# Altium schematic symbol library Sch_Device_veryaz.SchLib: 648 symbols (part 3 of 4)
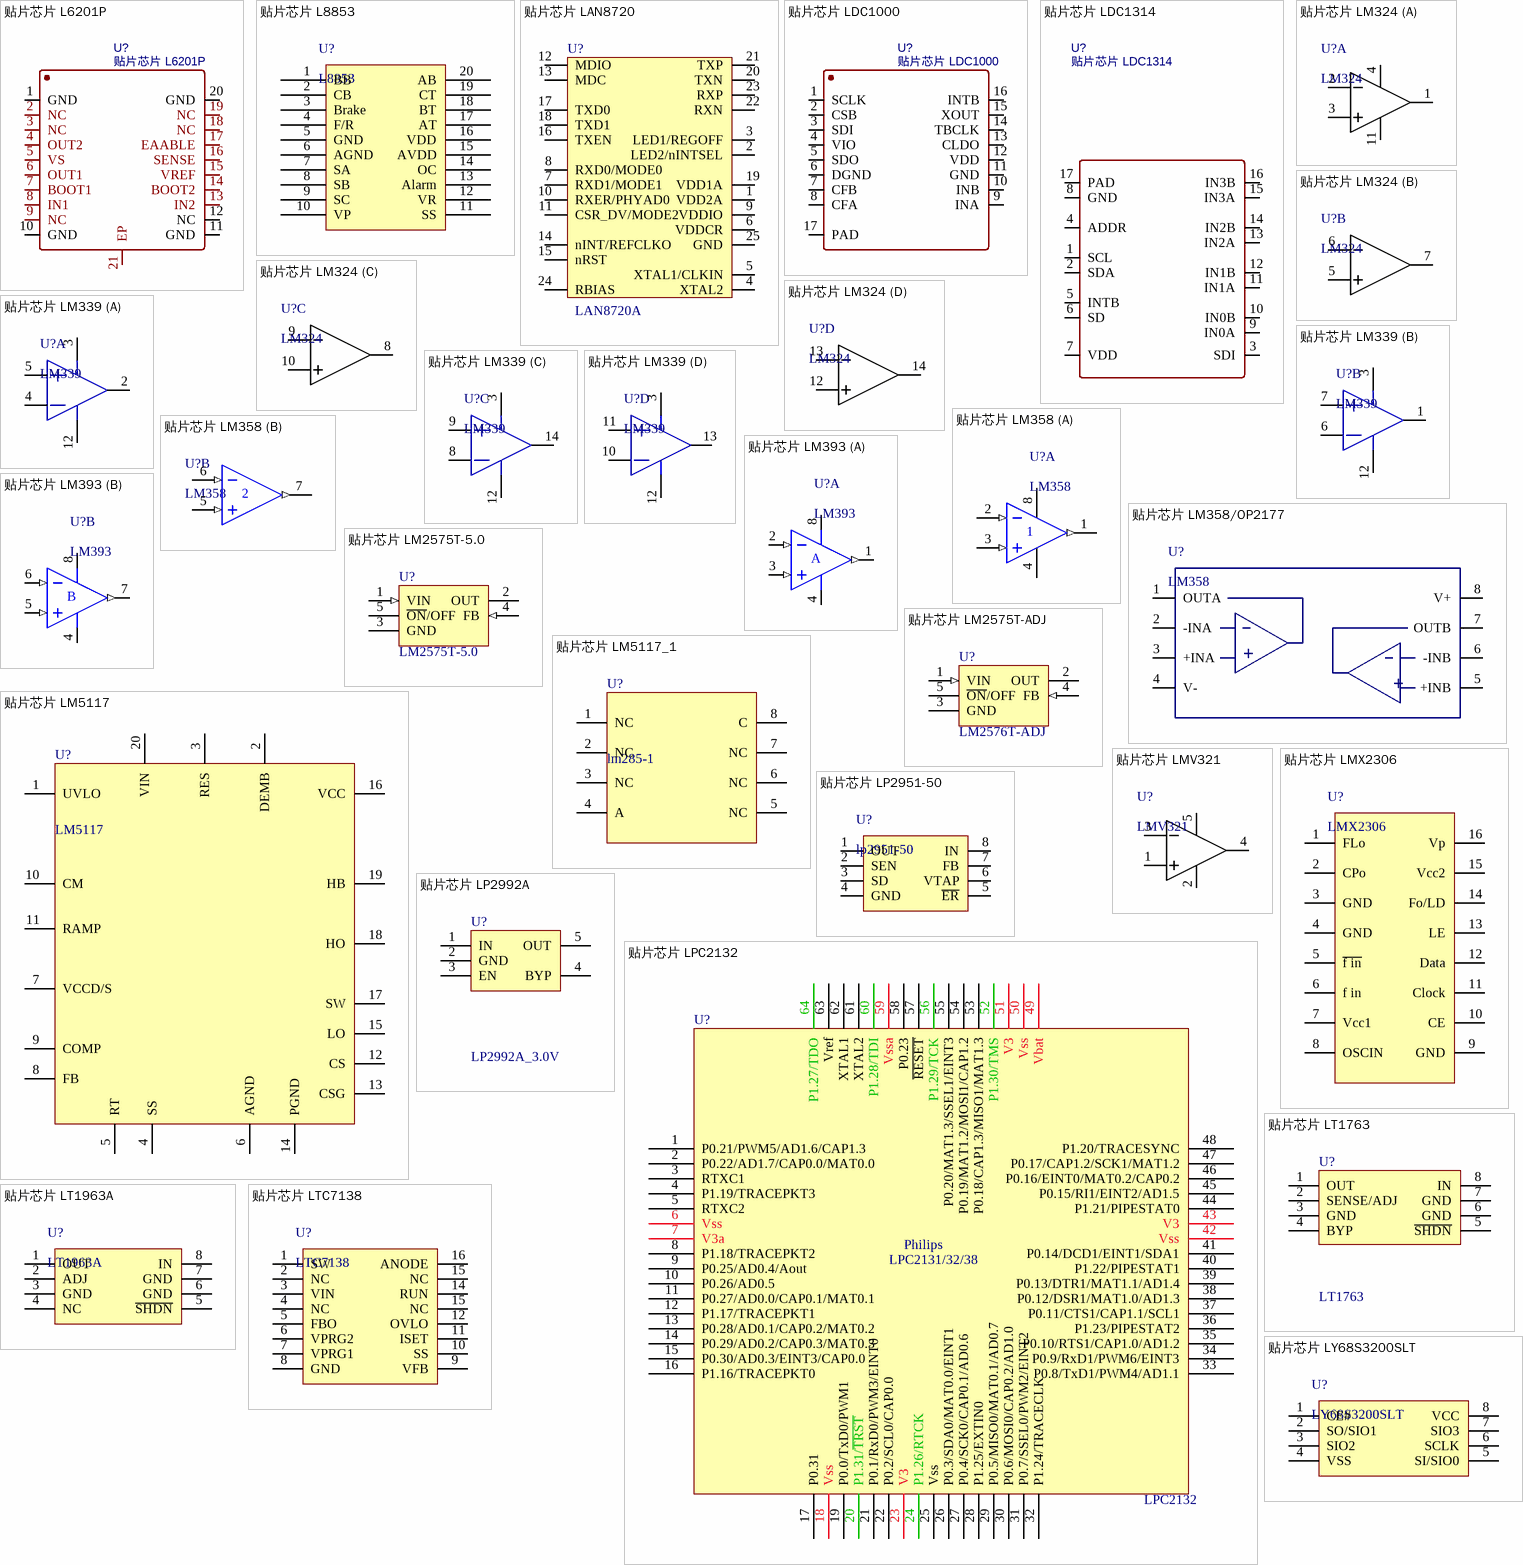
[diagram p33: symbols 贴片芯片 L6201P to 贴片芯片 LY68S3200SLT]

## 贴片芯片 LDC1314
designator U?
footprint S-PQFP-N16
pins: 1 SCL, 2 SDA, 3 SDI, 4 ADDR, 5 INTB, 6 SD, 7 VDD, 8 GND, 9 IN0A, 10 IN0B, 11 IN1A, 12 IN1B, 13 IN2A, 14 IN2B, 15 IN3A, 16 IN3B, 17 PAD

## 贴片芯片 LM324
designator U?, comment LM324
单位: 个; 封装: SO14; 名称: 芯片
footprint SO14 (Small Outline; 14 Leads; Body Width 3.9 mm; Pitch 1.27 mm)
part A pins: 1, 2, 3, 4 VCC, 11 GND
part B pins: 5, 6, 7
part C pins: 8, 9, 10
part D pins: 12, 13, 14

## 贴片芯片 LM339
designator U?, comment LM339
单位: 片; 名称: 芯片; 封装: DIP14
footprint DIP14
part A pins: 2, 3, 4, 5, 12
part B pins: 1, 3, 6, 7, 12
part C pins: 3, 8, 9, 12, 14
part D pins: 3, 10, 11, 12, 13

## 贴片芯片 LM358
designator U?, comment LM358
单位: 个; 封装: SO8; 名称: 贴片芯片
footprint SO8
part A pins: 1 OUT (out), 2 IN- (in), 3 IN+ (in), 4 V- (power), 8 V+ (power)
part B pins: 5 IN+ (in), 6 IN- (in), 7 OUT (out)

## 贴片芯片 LM358/OP2177
designator U?, comment LM358
单位: 个; 封装: SO8; 名称: 贴片芯片
footprint SO8
pins: 1 OUTA, 2 -INA, 3 +INA, 4 V-, 5 +INB, 6 -INB, 7 OUTB, 8 V+
text: +

## 贴片芯片 LM393
designator U?, comment LM393
单位: 个; 封装: SO8; 名称: 贴片芯片
footprint SO8
part A pins: 1 OUT (out), 2 IN- (in), 3 IN+ (in), 4 V- (power), 8 V+ (power)
part B pins: 4 V- (power), 5 IN+ (in), 6 IN- (in), 7 OUT (out), 8 V+ (power)
part A text: A
part B text: B

## 贴片芯片 LM2575T-5.0
designator U?, comment LM2575T-5.0
名称: 贴片芯片; 封装: TO220; 单位: 个
footprint TO263 LM2576
pins: 1 VIN (in), 2 OUT (oe), 3 GND (power), 4 FB (in), 5 ~{ON}/OFF

## 贴片芯片 LM2575T-ADJ
designator U?, comment LM2576T-ADJ
名称: 贴片芯片; 封装: TO220; 单位: 个
footprint TO263 LM2576
pins: 1 VIN (in), 2 OUT (oe), 3 GND (power), 4 FB (in), 5 ~{ON}/OFF

## 贴片芯片 LM5117
designator U?, comment LM5117
名称: 贴片芯片; 封装: TSSOP20; 单位: 个
footprint TSSOP20 (Shrink Small Outline; 20 Leads; Body Width 4.4 mm; Pitch 0.65 mm)
pins: 1 UVLO, 2 DEMB, 3 RES, 4 SS, 5 RT, 6 AGND, 7 VCCD/S, 8 FB, 9 COMP, 10 CM, 11 RAMP, 12 CS, 13 CSG, 14 PGND, 15 LO, 16 VCC, 17 SW, 18 HO, 19 HB, 20 VIN

## 贴片芯片 LM5117_1
designator U?, comment lm285-1
名称: 贴片芯片; 封装: TSSOP20; 单位: 个
footprint SOIC8
pins: 1 NC, 2 NC, 3 NC, 4 A, 5 NC, 6 NC, 7 NC, 8 C

## 贴片芯片 LMV321
designator U?, comment LMV321
单位: 个; 封装: SOT23-5; 名称: 芯片
footprint SOT23-5
pins: 1 IN+, 2 GND, 3 IN-, 4 OUT, 5 VCC

## 贴片芯片 LMX2306
designator U?, comment LMX2306
footprint SSOP16
pins: 1 FLo, 2 CPo, 3 GND, 4 GND, 5 ~{f in}, 6 f in, 7 Vcc1, 8 OSCIN, 9 GND, 10 CE, 11 Clock, 12 Data, 13 LE, 14 Fo/LD, 15 Vcc2, 16 Vp

## 贴片芯片 LP2951-50
designator U?, comment lp2951-50
LDO; 名称: 贴片芯片; 单位: 片; 封装: SOIC8
footprint SOIC8
pins: 1 OUT, 2 SEN, 3 SD, 4 GND, 5 ~{ER}, 6 VTAP, 7 FB, 8 IN

## 贴片芯片 LP2992A
designator U?, comment LP2992A_3.0V
名称: 芯片; 封装: M5; 单位: 个
footprint M5 (Footprint not found)
pins: 1 IN, 2 GND, 3 EN, 4 BYP, 5 OUT
2 alternate drawings of the same symbol

## 贴片芯片 LPC2132
designator U?, comment LPC2132
名称: 贴片芯片; 封装: TQFP64; 单位: 个
footprint TQFP64 (QFP, Thin; 64 Leads; Body 10 x 10 mm; Pitch 0.5 mm)
pins: 1 P0.21/PWM5/AD1.6/CAP1.3, 2 P0.22/AD1.7/CAP0.0/MAT0.0, 3 RTXC1, 4 P1.19/TRACEPKT3, 5 RTXC2, 6 Vss, 7 V3a, 8 P1.18/TRACEPKT2, 9 P0.25/AD0.4/Aout, 10 P0.26/AD0.5, 11 P0.27/AD0.0/CAP0.1/MAT0.1, 12 P1.17/TRACEPKT1, 13 P0.28/AD0.1/CAP0.2/MAT0.2, 14 P0.29/AD0.2/CAP0.3/MAT0.3, 15 P0.30/AD0.3/EINT3/CAP0.0, 16 P1.16/TRACEPKT0, 17 P0.31, 18 Vss, 19 P0.0/TxD0/PWM1, 20 P1.31/~{TRST}, 21 P0.1/RxD0/PWM3/EINT0, 22 P0.2/SCL0/CAP0.0, 23 V3, 24 P1.26/RTCK, 25 Vss, 26 P0.3/SDA0/MAT0.0/EINT1, 27 P0.4/SCK0/CAP0.1/AD0.6, 28 P1.25/EXTIN0, 29 P0.5/MISO0/MAT0.1/AD0.7, 30 P0.6/MOSI0/CAP0.2/AD1.0, 31 P0.7/SSEL0/PWM2/EINT2, 32 P1.24/TRACECLK, 33 P0.8/TxD1/PWM4/AD1.1, 34 P0.9/RxD1/PWM6/EINT3, 35 P0.10/RTS1/CAP1.0/AD1.2, 36 P1.23/PIPESTAT2, 37 P0.11/CTS1/CAP1.1/SCL1, 38 P0.12/DSR1/MAT1.0/AD1.3, 39 P0.13/DTR1/MAT1.1/AD1.4, 40 P1.22/PIPESTAT1, 41 P0.14/DCD1/EINT1/SDA1, 42 Vss, 43 V3, 44 P1.21/PIPESTAT0, 45 P0.15/RI1/EINT2/AD1.5, 46 P0.16/EINT0/MAT0.2/CAP0.2, 47 P0.17/CAP1.2/SCK1/MAT1.2, 48 P1.20/TRACESYNC, 49 Vbat, 50 Vss, 51 V3, 52 P1.30/TMS, 53 P0.18/CAP1.3/MISO1/MAT1.3, 54 P0.19/MAT1.2/MOSI1/CAP1.2, 55 P0.20/MAT1.3/SSEL1/EINT3, 56 P1.29/TCK, 57 ~{RESET}, 58 P0.23, 59 Vssa, 60 P1.28/TDI, 61 XTAL2, 62 XTAL1, 63 Vref, 64 P1.27/TDO
text: Philips; LPC2131/32/38

## 贴片芯片 LT1763
designator U?, comment LT1763
名称: 芯片; 封装: SO8; 单位: 个
footprint SO8
pins: 1 OUT, 2 SENSE/ADJ, 3 GND, 4 BYP, 5 ~{SHDN}, 6 GND, 7 GND, 8 IN
2 alternate drawings of the same symbol

## 贴片芯片 LT1963A
designator U?, comment LT1963A
单位: 片; 封装: SO8; 名称: 芯片
footprint SO8
pins: 1 OUT, 2 ADJ, 3 GND, 4 NC, 5 ~{SHDN}, 6 GND, 7 GND, 8 IN

## 贴片芯片 LTC7138
designator U?, comment LTC7138
单位: 片; 封装: MSOP16; 名称: 贴片芯片
footprint MSOP16
pins: 1 SW, 2 NC, 3 VIN, 4 NC, 5 FBO, 6 VPRG2, 7 VPRG1, 8 GND, 9 VFB, 10 SS, 11 ISET, 12 OVLO, 14 RUN, 15 NC, 15 NC, 16 ANODE

## 贴片芯片 LY68S3200SLT
designator U?, comment LY68S3200SLT
单位: 片; 封装: SOIC8; 名称: 贴片芯片
footprint SOIC8
pins: 1 CE#, 2 SO/SIO1, 3 SIO2, 4 VSS, 5 SI/SIO0, 6 SCLK, 7 SIO3, 8 VCC

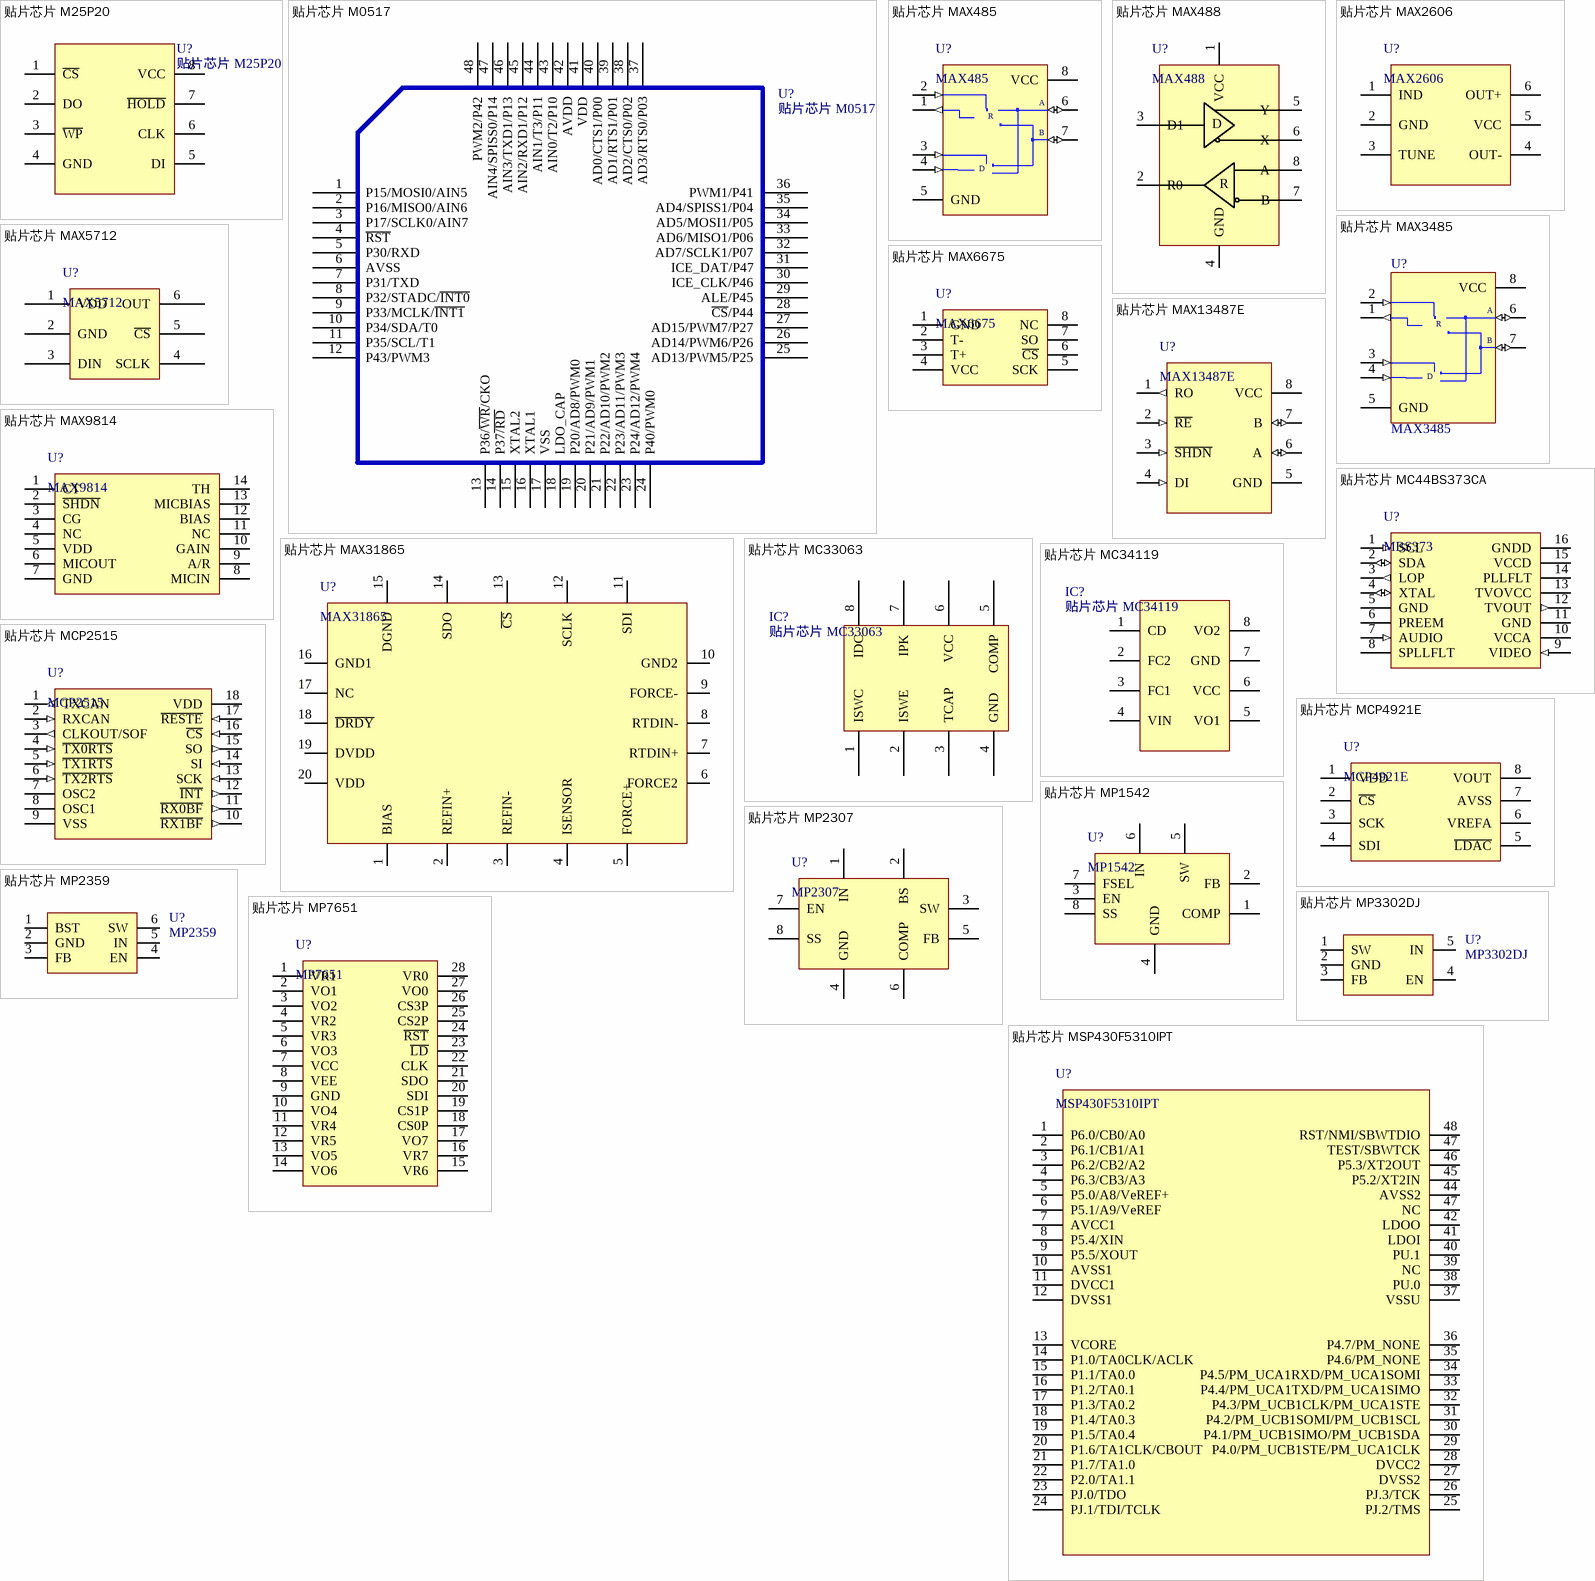
[diagram p18: symbols 贴片芯片 M25P20 to 贴片芯片 MSP430F5310IPT]

## 贴片芯片 M25P20
designator U?
单位: 片; 封装: SOP8; 名称: 贴片芯片
footprint SO8-W
pins: 1 ~{CS}, 2 DO, 3 ~{WP}, 4 GND, 5 DI, 6 CLK, 7 ~{HOLD}, 8 VCC

## 贴片芯片 M0517
designator U?
封装: LQFP48; 单位: 片; 名称: 贴片芯片
footprint LQFP48
pins: 1 P15/MOSI0/AIN5, 2 P16/MISO0/AIN6, 3 P17/SCLK0/AIN7, 4 ~{RST}, 5 P30/RXD, 6 AVSS, 7 P31/TXD, 8 P32/STADC/~{INT0}, 9 P33/MCLK/~{INT1}, 10 P34/SDA/T0, 11 P35/SCL/T1, 12 P43/PWM3, 13 P36/~{WR}/CKO, 14 P37~{/RD}, 15 XTAL2, 16 XTAL1, 17 VSS, 18 LDO_CAP, 19 P20/AD8/PWM0, 20 P21/AD9/PWM1, 21 P22/AD10/PWM2, 22 P23/AD11/PWM3, 23 P24/AD12/PWM4, 24 P40/PWM0, 25 AD13/PWM5/P25, 26 AD14/PWM6/P26, 27 AD15/PWM7/P27, 28 ~{CS}/P44, 29 ALE/P45, 30 ICE_CLK/P46, 31 ICE_DAT/P47, 32 AD7/SCLK1/P07, 33 AD6/MISO1/P06, 34 AD5/MOSI1/P05, 35 AD4/SPISS1/P04, 36 PWM1/P41, 37 AD3/RTS0/P03, 38 AD2/CTS0/P02, 39 AD1/RTS1/P01, 40 AD0/CTS1/P00, 41 VDD, 42 AVDD, 43 AIN0/T2/P10, 44 AIN1/T3/P11, 45 AIN2/RXD1/P12, 46 AIN3/TXD1/P13, 47 AIN4/SPISS0/P14, 48 PWM2/P42

## 贴片芯片 MAX485
designator U?, comment MAX485
名称: 芯片; 封装: SO8; 单位: 片
footprint SO8
pins: 1 RO (out), 2 ~{RE} (in), 3 DE (in), 4 DI (in), 5 GND (power), 6 A (io), 7 B (io), 8 VCC (power)
text: R; D

## 贴片芯片 MAX488
designator U?, comment MAX488
名称: 贴片芯片; 单位: 个; 封装: SOIC8
footprint SOIC8
pins: 1 VCC, 2 R0, 3 D1, 4 GND, 5 Y, 6 X, 7 B, 8 A
text: D; R

## 贴片芯片 MAX2606
designator U?, comment MAX2606
footprint SOT23-6
pins: 1 IND, 2 GND, 3 TUNE, 4 OUT-, 5 VCC, 6 OUT+

## 贴片芯片 MAX3485
designator U?, comment MAX3485
名称: 贴片芯片; 封装: SOIC8; 单位: 个
footprint SO8
pins: 1 RO (out), 2 ~{RE} (in), 3 DE (in), 4 DI (in), 5 GND (power), 6 A (io), 7 B (io), 8 VCC (power)
text: R; D

## 贴片芯片 MAX5712
designator U?, comment MAX5712
单位: 片; 封装: SOT23; 名称: 芯片
footprint SOT-23-6
pins: 1 VDD, 2 GND, 3 DIN, 4 SCLK, 5 ~{CS}, 6 OUT

## 贴片芯片 MAX6675
designator U?, comment MAX6675
单位: 片; 封装: SOIC8; 名称: 贴片芯片
footprint SOIC8
pins: 1 GND, 2 T-, 3 T+, 4 VCC, 5 SCK, 6 ~{CS}, 7 SO, 8 NC

## 贴片芯片 MAX9814
designator U?, comment MAX9814
单位: 个; 封装: TDFN14; 名称: 贴片芯片
footprint TDFN14
pins: 1 CT, 2 ~{SHDN}, 3 CG, 4 NC, 5 VDD, 6 MICOUT, 7 GND, 8 MICIN, 9 A/R, 10 GAIN, 11 NC, 12 BIAS, 13 MICBIAS, 14 TH

## 贴片芯片 MAX13487E
designator U?, comment MAX13487E
名称: 芯片; 封装: SO8; 单位: 片
footprint SO8
pins: 1 RO (out), 2 ~{RE} (in), 3 ~{SHDN} (in), 4 DI (in), 5 GND (power), 6 A (io), 7 B (io), 8 VCC (power)

## 贴片芯片 MAX31865
designator U?, comment MAX31865
封装: TQFN20; 名称: 芯片; 单位: 片
footprint QFN20 (5*5MM)
pins: 1 BIAS, 2 REFIN+, 3 REFIN-, 4 ISENSOR, 5 FORCE+, 6 FORCE2, 7 RTDIN+, 8 RTDIN-, 9 FORCE-, 10 GND2, 11 SDI, 12 SCLK, 13 ~{CS}, 14 SDO, 15 DGND, 16 GND1, 17 NC, 18 ~{DRDY}, 19 DVDD, 20 VDD

## 贴片芯片 MC44BS373CA
designator U?, comment MBS373
footprint SOIC16 (Small Outline; 16 Leads; Body Width 3.9 mm; Pitch 1.27 mm)
pins: 1 SCL (in), 2 SDA (io), 3 LOP (out), 4 XTAL (io), 5 GND, 6 PREEM, 7 AUDIO (in), 8 SPLLFLT, 9 VIDEO (in), 10 VCCA, 11 GND, 12 TVOUT (out), 13 TVOVCC, 14 PLLFLT, 15 VCCD, 16 GNDD

## 贴片芯片 MC33063
designator IC?
单位: 片; 封装: SOIC8; 名称: 贴片芯片
footprint SOIC8
pins: 1 ISWC, 2 ISWE, 3 TCAP, 4 GND, 5 COMP, 6 VCC, 7 IPK, 8 IDC

## 贴片芯片 MC34119
designator IC?
单位: 片; 封装: SOIC8; 名称: 贴片芯片
footprint SOIC8
pins: 1 CD, 2 FC2, 3 FC1, 4 VIN, 5 VO1, 6 VCC, 7 GND, 8 VO2

## 贴片芯片 MCP2515
designator U?, comment MCP2515
单位: 片; 封装: SOIC18; 名称: 贴片芯片
footprint SOIC18 (Footprint not found)
pins: 1 TXCAN (out), 2 RXCAN (in), 3 CLKOUT/SOF (out), 4 ~{TX0RTS} (in), 5 ~{TX1RTS} (in), 6 ~{TX2RTS} (in), 7 OSC2, 8 OSC1, 9 VSS, 10 ~{RX1BF} (out), 11 ~{RX0BF} (out), 12 ~{INT} (out), 13 SCK (in), 14 SI (in), 15 SO (out), 16 ~{CS} (in), 17 ~{RESTE} (in), 18 VDD

## 贴片芯片 MCP4921E
designator U?, comment MCP4921E
电压基准; 单位: 片; 封装: SOIC8; 名称: 贴片芯片
footprint SOIC8
pins: 1 VDD, 2 ~{CS}, 3 SCK, 4 SDI, 5 ~{LDAC}, 6 VREFA, 7 AVSS, 8 VOUT

## 贴片芯片 MP1542
designator U?, comment MP1542
单位: 片; 封装: SSOP8; 名称: 贴片芯片
footprint SSOP8 (Footprint not found)
pins: 1 COMP, 2 FB, 3 EN, 4 GND, 5 SW, 6 IN, 7 FSEL, 8 SS

## 贴片芯片 MP2307
designator U?, comment MP2307
开关电源; 单位: 片; 封装: SOIC8; 名称: 贴片芯片
footprint SOIC8
pins: 1 IN, 2 BS, 3 SW, 4 GND, 5 FB, 6 COMP, 7 EN, 8 SS

## 贴片芯片 MP2359
designator U?, comment MP2359
开关电源; 名称: 贴片芯片; 单位: 片; 封装: SOT23-6
footprint SOT23-6
pins: 1 BST, 2 GND, 3 FB, 4 EN, 5 IN, 6 SW

## 贴片芯片 MP3302DJ
designator U?, comment MP3302DJ
LED驱动; 名称: 贴片芯片; 单位: 片; 封装: SOT23-5
footprint SOT23-5
pins: 1 SW, 2 GND, 3 FB, 4 EN, 5 IN

## 贴片芯片 MP7651
designator U?, comment MP7651
单位: 片; 封装: SOIC28; 名称: 贴片芯片
footprint SOIC28
pins: 1 VR1, 2 VO1, 3 VO2, 4 VR2, 5 VR3, 6 VO3, 7 VCC, 8 VEE, 9 GND, 10 VO4, 11 VR4, 12 VR5, 13 VO5, 14 VO6, 15 VR6, 16 VR7, 17 VO7, 18 CS0P, 19 CS1P, 20 SDI, 21 SDO, 22 CLK, 23 ~{LD}, 24 ~{RST}, 25 CS2P, 26 CS3P, 27 VO0, 28 VR0

## 贴片芯片 MSP430F5310IPT
designator U?, comment MSP430F5310IPT
单片机; 单位: 片; 封装: QFN48; 名称: 贴片芯片
footprint QFN48 (VQFN48)
pins: 1 P6.0/CB0/A0, 2 P6.1/CB1/A1, 3 P6.2/CB2/A2, 4 P6.3/CB3/A3, 5 P5.0/A8/VeREF+, 6 P5.1/A9/VeREF, 7 AVCC1, 8 P5.4/XIN, 9 P5.5/XOUT, 10 AVSS1, 11 DVCC1, 12 DVSS1, 13 VCORE, 14 P1.0/TA0CLK/ACLK, 15 P1.1/TA0.0, 16 P1.2/TA0.1, 17 P1.3/TA0.2, 18 P1.4/TA0.3, 19 P1.5/TA0.4, 20 P1.6/TA1CLK/CBOUT, 21 P1.7/TA1.0, 22 P2.0/TA1.1, 23 PJ.0/TDO, 24 PJ.1/TDI/TCLK, 25 PJ.2/TMS, 26 PJ.3/TCK, 27 DVSS2, 28 DVCC2, 29 P4.0/PM_UCB1STE/PM_UCA1CLK, 30 P4.1/PM_UCB1SIMO/PM_UCB1SDA, 31 P4.2/PM_UCB1SOMI/PM_UCB1SCL, 32 P4.3/PM_UCB1CLK/PM_UCA1STE, 33 P4.4/PM_UCA1TXD/PM_UCA1SIMO, 34 P4.5/PM_UCA1RXD/PM_UCA1SOMI, 35 P4.6/PM_NONE, 36 P4.7/PM_NONE, 37 VSSU, 38 PU.0, 39 NC, 40 PU.1, 41 LDOI, 42 LDOO, 44 AVSS2, 45 P5.2/XT2IN, 46 P5.3/XT2OUT, 47 TEST/SBWTCK, 47 NC, 48 RST/NMI/SBWTDIO

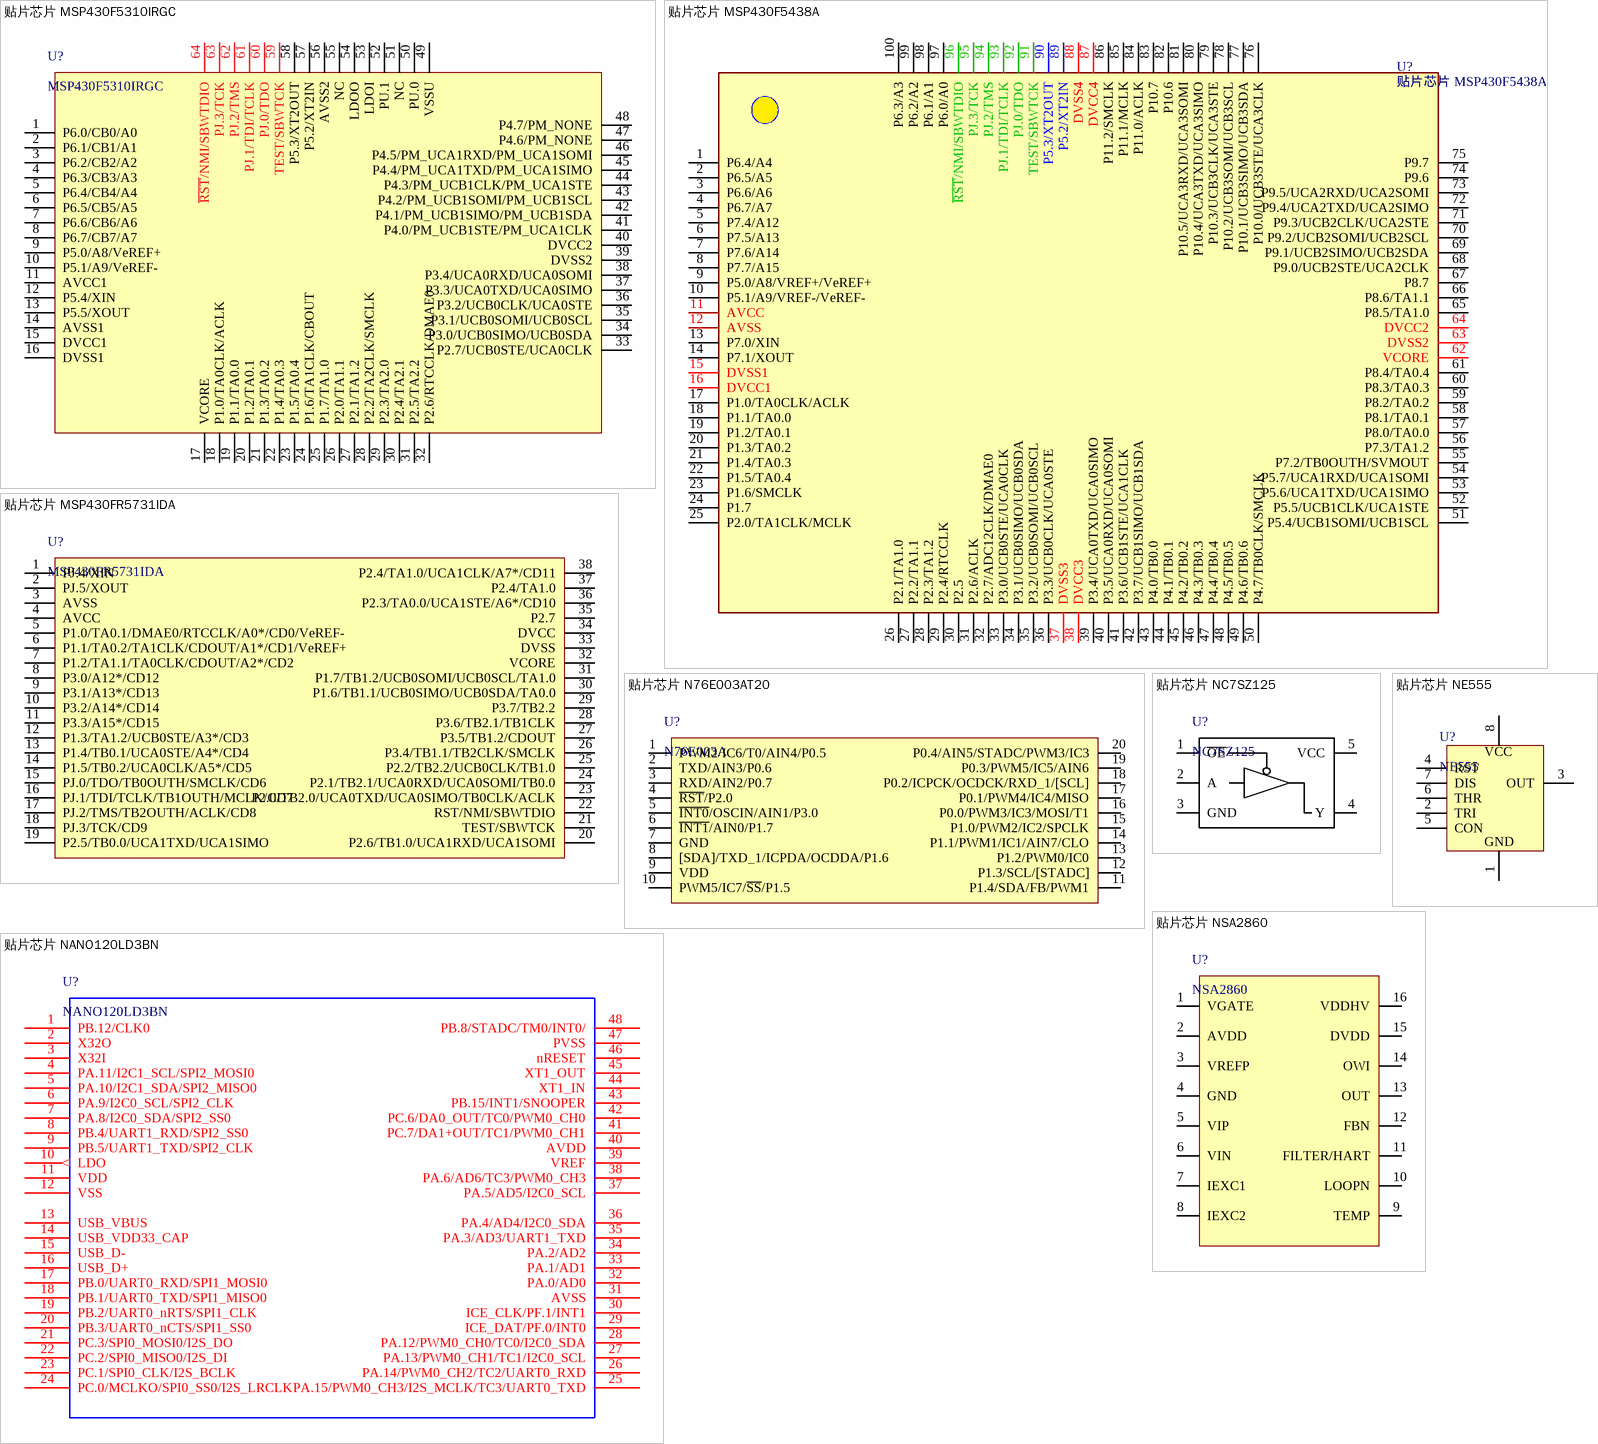
[diagram p19: symbols 贴片芯片 MSP430F5310IRGC to 贴片芯片 NSA2860]

## 贴片芯片 MSP430F5310IRGC
designator U?, comment MSP430F5310IRGC
单片机; 单位: 片; 封装: QFN64; 名称: 芯片
footprint QFN64
pins: 1 P6.0/CB0/A0, 2 P6.1/CB1/A1, 3 P6.2/CB2/A2, 4 P6.3/CB3/A3, 5 P6.4/CB4/A4, 6 P6.5/CB5/A5, 7 P6.6/CB6/A6, 8 P6.7/CB7/A7, 9 P5.0/A8/VeREF+, 10 P5.1/A9/VeREF-, 11 AVCC1, 12 P5.4/XIN, 13 P5.5/XOUT, 14 AVSS1, 15 DVCC1, 16 DVSS1, 17 VCORE, 18 P1.0/TA0CLK/ACLK, 19 P1.1/TA0.0, 20 P1.2/TA0.1, 21 P1.3/TA0.2, 22 P1.4/TA0.3, 23 P1.5/TA0.4, 24 P1.6/TA1CLK/CBOUT, 25 P1.7/TA1.0, 26 P2.0/TA1.1, 27 P2.1/TA1.2, 28 P2.2/TA2CLK/SMCLK, 29 P2.3/TA2.0, 30 P2.4/TA2.1, 31 P2.5/TA2.2, 32 P2.6/RTCCLK/DMAE0, 33 P2.7/UCB0STE/UCA0CLK, 34 P3.0/UCB0SIMO/UCB0SDA, 35 P3.1/UCB0SOMI/UCB0SCL, 36 P3.2/UCB0CLK/UCA0STE, 37 P3.3/UCA0TXD/UCA0SIMO, 38 P3.4/UCA0RXD/UCA0SOMI, 39 DVSS2, 40 DVCC2, 41 P4.0/PM_UCB1STE/PM_UCA1CLK, 42 P4.1/PM_UCB1SIMO/PM_UCB1SDA, 43 P4.2/PM_UCB1SOMI/PM_UCB1SCL, 44 P4.3/PM_UCB1CLK/PM_UCA1STE, 45 P4.4/PM_UCA1TXD/PM_UCA1SIMO, 46 P4.5/PM_UCA1RXD/PM_UCA1SOMI, 47 P4.6/PM_NONE, 48 P4.7/PM_NONE, 49 VSSU, 50 PU.0, 51 NC, 52 PU.1, 53 LDOI, 54 LDOO, 55 NC, 56 AVSS2, 57 P5.2/XT2IN, 58 P5.3/XT2OUT, 59 TEST/SBWTCK, 60 PJ.0/TDO, 61 PJ.1/TDI/TCLK, 62 PJ.2/TMS, 63 PJ.3/TCK, 64 ~{RST}/NMI/SBWTDIO

## 贴片芯片 MSP430F5438A
designator U?
单片机; 封装: LQFP100; 单位: 片; 名称: 贴片芯片
footprint LQFP100
pins: 1 P6.4/A4, 2 P6.5/A5, 3 P6.6/A6, 4 P6.7/A7, 5 P7.4/A12, 6 P7.5/A13, 7 P7.6/A14, 8 P7.7/A15, 9 P5.0/A8/VREF+/VeREF+, 10 P5.1/A9/VREF-/VeREF-, 11 AVCC, 12 AVSS, 13 P7.0/XIN, 14 P7.1/XOUT, 15 DVSS1, 16 DVCC1, 17 P1.0/TA0CLK/ACLK, 18 P1.1/TA0.0, 19 P1.2/TA0.1, 20 P1.3/TA0.2, 21 P1.4/TA0.3, 22 P1.5/TA0.4, 23 P1.6/SMCLK, 24 P1.7, 25 P2.0/TA1CLK/MCLK, 26 P2.1/TA1.0, 27 P2.2/TA1.1, 28 P2.3/TA1.2, 29 P2.4/RTCCLK, 30 P2.5, 31 P2.6/ACLK, 32 P2.7/ADC12CLK/DMAE0, 33 P3.0/UCB0STE/UCA0CLK, 34 P3.1/UCB0SIMO/UCB0SDA, 35 P3.2/UCB0SOMI/UCB0SCL, 36 P3.3/UCB0CLK/UCA0STE, 37 DVSS3, 38 DVCC3, 39 P3.4/UCA0TXD/UCA0SIMO, 40 P3.5/UCA0RXD/UCA0SOMI, 41 P3.6/UCB1STE/UCA1CLK, 42 P3.7/UCB1SIMO/UCB1SDA, 43 P4.0/TB0.0, 44 P4.1/TB0.1, 45 P4.2/TB0.2, 46 P4.3/TB0.3, 47 P4.4/TB0.4, 48 P4.5/TB0.5, 49 P4.6/TB0.6, 50 P4.7/TB0CLK/SMCLK, 51 P5.4/UCB1SOMI/UCB1SCL, 52 P5.5/UCB1CLK/UCA1STE, 53 P5.6/UCA1TXD/UCA1SIMO, 54 P5.7/UCA1RXD/UCA1SOMI, 55 P7.2/TB0OUTH/SVMOUT, 56 P7.3/TA1.2, 57 P8.0/TA0.0, 58 P8.1/TA0.1, 59 P8.2/TA0.2, 60 P8.3/TA0.3, 61 P8.4/TA0.4, 62 VCORE, 63 DVSS2, 64 DVCC2, 65 P8.5/TA1.0, 66 P8.6/TA1.1, 67 P8.7, 68 P9.0/UCB2STE/UCA2CLK, 69 P9.1/UCB2SIMO/UCB2SDA, 70 P9.2/UCB2SOMI/UCB2SCL, 71 P9.3/UCB2CLK/UCA2STE, 72 P9.4/UCA2TXD/UCA2SIMO, 73 P9.5/UCA2RXD/UCA2SOMI, 74 P9.6, 75 P9.7, 76 P10.0/UCB3STE/UCA3CLK, 77 P10.1/UCB3SIMO/UCB3SDA, 78 P10.2/UCB3SOMI/UCB3SCL, 79 P10.3/UCB3CLK/UCA3STE, 80 P10.4/UCA3TXD/UCA3SIMO, 81 P10.5/UCA3RXD/UCA3SOMI, 82 P10.6, 83 P10.7, 84 P11.0/ACLK, 85 P11.1/MCLK, 86 P11.2/SMCLK, 87 DVCC4, 88 DVSS4, 89 P5.2/XT2IN, 90 P5.3/XT2OUT, 91 TEST/SBWTCK, 92 PJ.0/TDO, 93 PJ.1/TDI/TCLK, 94 PJ.2/TMS, 95 PJ.3/TCK, 96 ~{RST}/NMI/SBWTDIO, 97 P6.0/A0, 98 P6.1/A1, 99 P6.2/A2, 100 P6.3/A3

## 贴片芯片 MSP430FR5731IDA
designator U?, comment MSP430FR5731IDA
单片机; 封装: QFN38; 名称: 贴片芯片; 单位: 片
footprint QFN32
pins: 1 PJ.4/XIN, 2 PJ.5/XOUT, 3 AVSS, 4 AVCC, 5 P1.0/TA0.1/DMAE0/RTCCLK/A0*/CD0/VeREF-, 6 P1.1/TA0.2/TA1CLK/CDOUT/A1*/CD1/VeREF+, 7 P1.2/TA1.1/TA0CLK/CDOUT/A2*/CD2, 8 P3.0/A12*/CD12, 9 P3.1/A13*/CD13, 10 P3.2/A14*/CD14, 11 P3.3/A15*/CD15, 12 P1.3/TA1.2/UCB0STE/A3*/CD3, 13 P1.4/TB0.1/UCA0STE/A4*/CD4, 14 P1.5/TB0.2/UCA0CLK/A5*/CD5, 15 PJ.0/TDO/TB0OUTH/SMCLK/CD6, 16 PJ.1/TDI/TCLK/TB1OUTH/MCLK/CD7, 17 PJ.2/TMS/TB2OUTH/ACLK/CD8, 18 PJ.3/TCK/CD9, 19 P2.5/TB0.0/UCA1TXD/UCA1SIMO, 20 P2.6/TB1.0/UCA1RXD/UCA1SOMI, 21 TEST/SBWTCK, 22 RST/NMI/SBWTDIO, 23 P2.0/TB2.0/UCA0TXD/UCA0SIMO/TB0CLK/ACLK, 24 P2.1/TB2.1/UCA0RXD/UCA0SOMI/TB0.0, 25 P2.2/TB2.2/UCB0CLK/TB1.0, 26 P3.4/TB1.1/TB2CLK/SMCLK, 27 P3.5/TB1.2/CDOUT, 28 P3.6/TB2.1/TB1CLK, 29 P3.7/TB2.2, 30 P1.6/TB1.1/UCB0SIMO/UCB0SDA/TA0.0, 31 P1.7/TB1.2/UCB0SOMI/UCB0SCL/TA1.0, 32 VCORE, 33 DVSS, 34 DVCC, 35 P2.7, 36 P2.3/TA0.0/UCA1STE/A6*/CD10, 37 P2.4/TA1.0, 38 P2.4/TA1.0/UCA1CLK/A7*/CD11

## 贴片芯片 N76E003AT20
designator U?, comment N76E003A
单片机; 封装: SSOP20; 名称: 贴片芯片; 单位: 片
footprint SSOP20
pins: 1 PWM2/IC6/T0/AIN4/P0.5, 2 TXD/AIN3/P0.6, 3 RXD/AIN2/P0.7, 4 ~{RST}/P2.0, 5 ~{INT0}/OSCIN/AIN1/P3.0, 6 ~{INT1}/AIN0/P1.7, 7 GND, 8 [SDA]/TXD_1/ICPDA/OCDDA/P1.6, 9 VDD, 10 PWM5/IC7/~{SS}/P1.5, 11 P1.4/SDA/FB/PWM1, 12 P1.3/SCL/[STADC], 13 P1.2/PWM0/IC0, 14 P1.1/PWM1/IC1/AIN7/CLO, 15 P1.0/PWM2/IC2/SPCLK, 16 P0.0/PWM3/IC3/MOSI/T1, 17 P0.1/PWM4/IC4/MISO, 18 P0.2/ICPCK/OCDCK/RXD_1/[SCL], 19 P0.3/PWM5/IC5/AIN6, 20 P0.4/AIN5/STADC/PWM3/IC3

## 贴片芯片 NANO120LD3BN
designator U?, comment NANO120LD3BN
单片机; 单位: 片; 封装: LQFP48; 名称: 芯片
footprint LQFP48
pins: 1 PB.12/CLK0, 2 X32O, 3 X32I, 4 PA.11/I2C1_SCL/SPI2_MOSI0, 5 PA.10/I2C1_SDA/SPI2_MISO0, 6 PA.9/I2C0_SCL/SPI2_CLK, 7 PA.8/I2C0_SDA/SPI2_SS0, 8 PB.4/UART1_RXD/SPI2_SS0, 9 PB.5/UART1_TXD/SPI2_CLK, 10 LDO (out), 11 VDD, 12 VSS, 13 USB_VBUS, 14 USB_VDD33_CAP, 15 USB_D-, 16 USB_D+, 17 PB.0/UART0_RXD/SPI1_MOSI0, 18 PB.1/UART0_TXD/SPI1_MISO0, 19 PB.2/UART0_nRTS/SPI1_CLK, 20 PB.3/UART0_nCTS/SPI1_SS0, 21 PC.3/SPI0_MOSI0/I2S_DO, 22 PC.2/SPI0_MISO0/I2S_DI, 23 PC.1/SPI0_CLK/I2S_BCLK, 24 PC.0/MCLKO/SPI0_SS0/I2S_LRCLK, 25 PA.15/PWM0_CH3/I2S_MCLK/TC3/UART0_TXD, 26 PA.14/PWM0_CH2/TC2/UART0_RXD, 27 PA.13/PWM0_CH1/TC1/I2C0_SCL, 28 PA.12/PWM0_CH0/TC0/I2C0_SDA, 29 ICE_DAT/PF.0/INT0, 30 ICE_CLK/PF.1/INT1, 31 AVSS, 32 PA.0/AD0, 33 PA.1/AD1, 34 PA.2/AD2, 35 PA.3/AD3/UART1_TXD, 36 PA.4/AD4/I2C0_SDA, 37 PA.5/AD5/I2C0_SCL, 38 PA.6/AD6/TC3/PWM0_CH3, 39 VREF, 40 AVDD, 41 PC.7/DA1+OUT/TC1/PWM0_CH1, 42 PC.6/DA0_OUT/TC0/PWM0_CH0, 43 PB.15/INT1/SNOOPER, 44 XT1_IN, 45 XT1_OUT, 46 nRESET, 47 PVSS, 48 PB.8/STADC/TM0/INT0/

## 贴片芯片 NC7SZ125
designator U?, comment NC7SZ125
超高速缓冲; 单位: 个; 封装: SOT23-5; 名称: 芯片
footprint SOT23-5
pins: 1 ~{OE}, 2 A, 3 GND, 4 Y, 5 VCC

## 贴片芯片 NE555
designator U?, comment NE555
运放; 单位: 片; 封装: SOIC8; 名称: 贴片芯片
footprint SOIC8
pins: 1 GND, 2 TRI, 3 OUT, 4 RST, 5 CON, 6 THR, 7 DIS, 8 VCC

## 贴片芯片 NSA2860
designator U?, comment NSA2860
传感器转换芯片; 名称: 芯片; 分装: SSOP16; 单位: 片
footprint SSOP16
pins: 1 VGATE, 2 AVDD, 3 VREFP, 4 GND, 5 VIP, 6 VIN, 7 IEXC1, 8 IEXC2, 9 TEMP, 10 LOOPN, 11 FILTER/HART, 12 FBN, 13 OUT, 14 OWI, 15 DVDD, 16 VDDHV

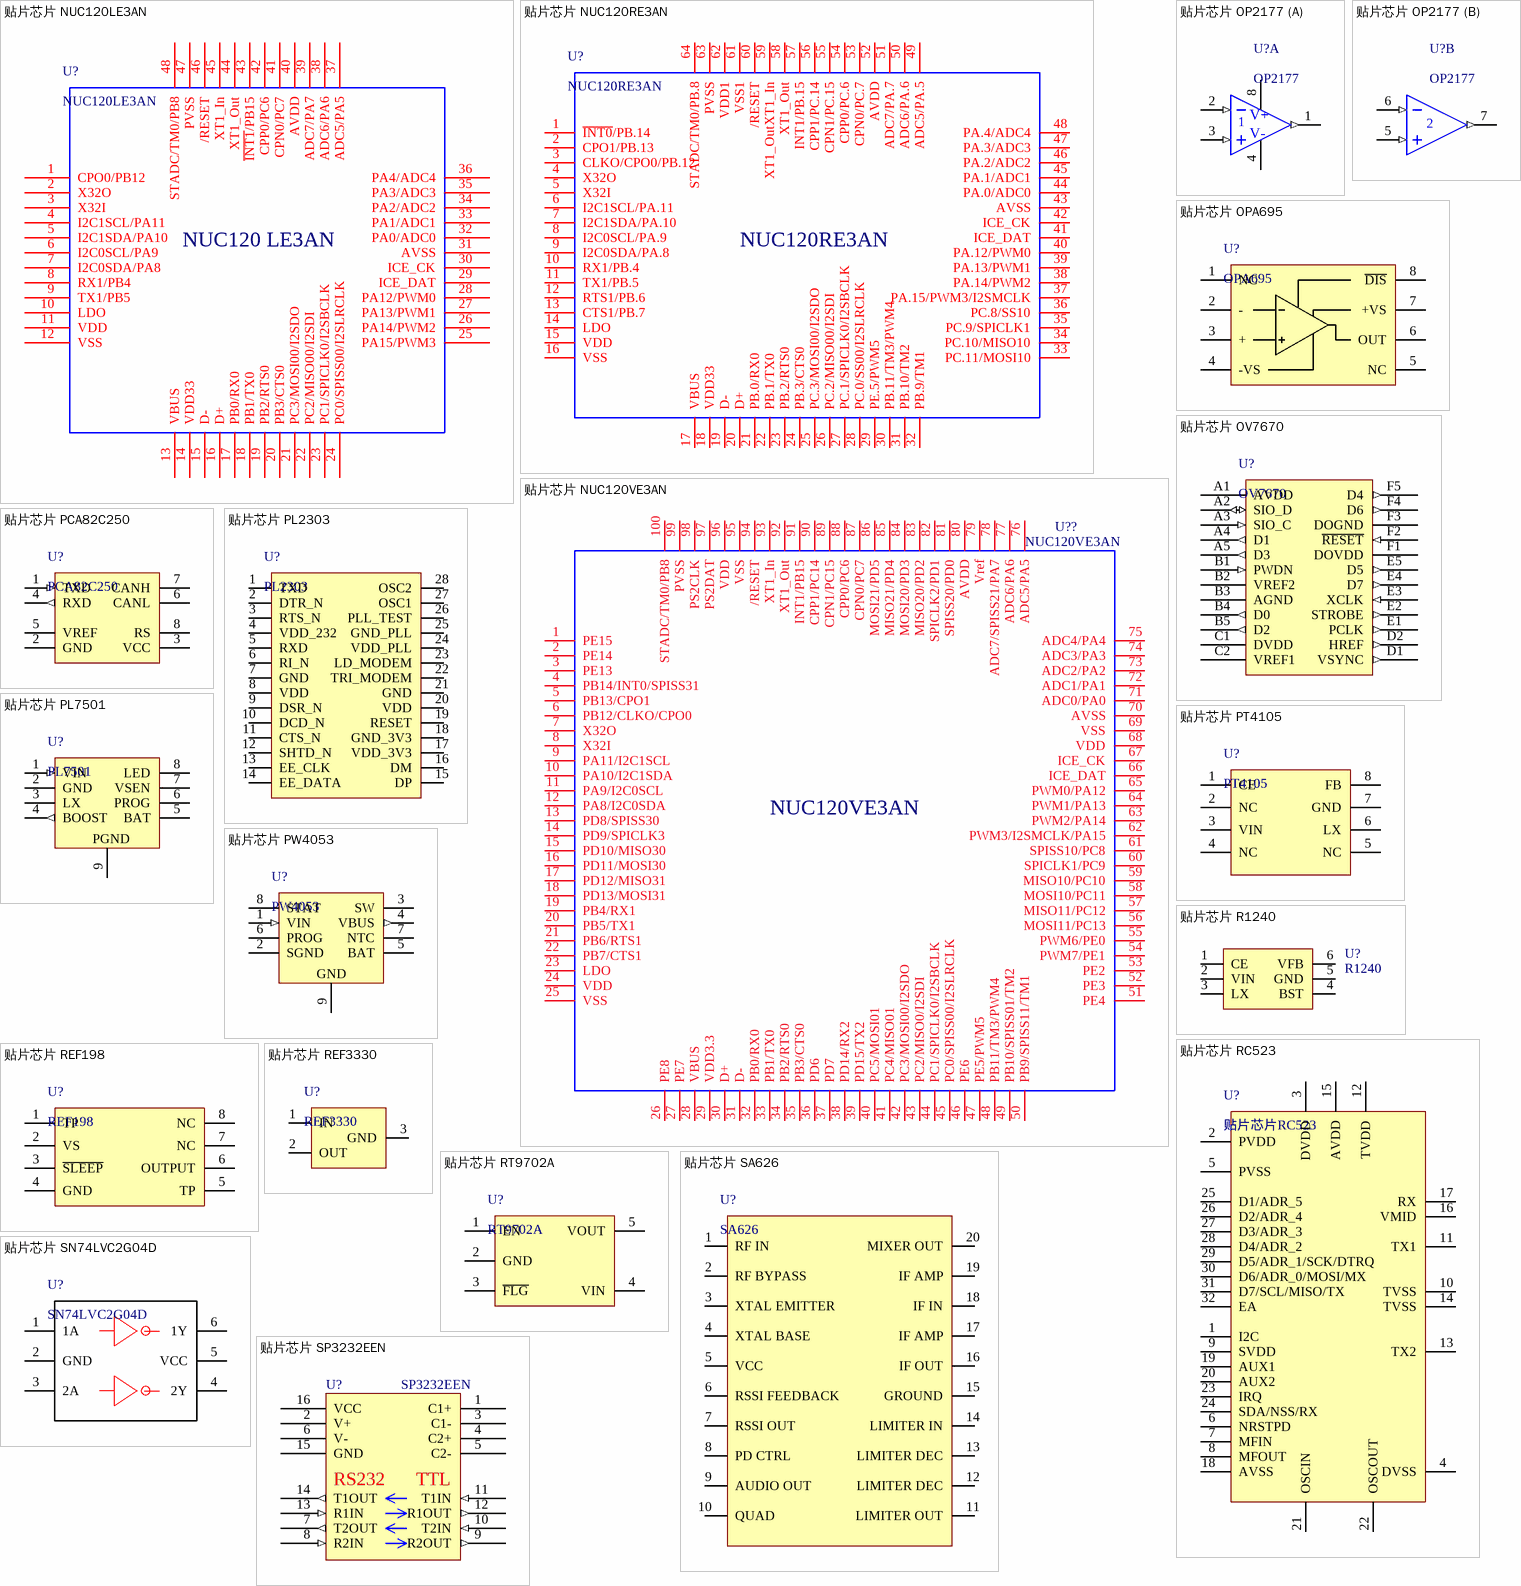
[diagram p20: symbols 贴片芯片 NUC120LE3AN to 贴片芯片 SP3232EEN]

## 贴片芯片 NUC120LE3AN
designator U?, comment NUC120LE3AN
单片机; 封装: LQFP48; 名称: 贴片芯片; 单位: 片
footprint LQFP48
pins: 1 CPO0/PB12, 2 X32O, 3 X32I, 4 I2C1SCL/PA11, 5 I2C1SDA/PA10, 6 I2C0SCL/PA9, 7 I2C0SDA/PA8, 8 RX1/PB4, 9 TX1/PB5, 10 LDO, 11 VDD, 12 VSS, 13 VBUS, 14 VDD33, 15 D-, 16 D+, 17 PB0/RX0, 18 PB1/TX0, 19 PB2/RTS0, 20 PB3/CTS0, 21 PC3/MOSI00/I2SDO, 22 PC2/MISO00/I2SDI, 23 PC1/SPICLK0/I2SBCLK, 24 PC0/SPISS00/I2SLRCLK, 25 PA15/PWM3, 26 PA14/PWM2, 27 PA13/PWM1, 28 PA12/PWM0, 29 ICE_DAT, 30 ICE_CK, 31 AVSS, 32 PA0/ADC0, 33 PA1/ADC1, 34 PA2/ADC2, 35 PA3/ADC3, 36 PA4/ADC4, 37 ADC5/PA5, 38 ADC6/PA6, 39 ADC7/PA7, 40 AVDD, 41 CPN0/PC7, 42 CPP0/PC6, 43 ~{INT1}/PB15, 44 XT1_Out, 45 XT1_In, 46 /RESET, 47 PVSS, 48 STADC/TM0/PB8
text: NUC120 LE3AN

## 贴片芯片 NUC120RE3AN
designator U?, comment NUC120RE3AN
单片机; 封装: LQFP64; 名称: 贴片芯片; 单位: 片
footprint LQFP64
pins: 1 ~{INT0}/PB.14, 2 CPO1/PB.13, 3 CLKO/CPO0/PB.12, 4 X32O, 5 X32I, 6 I2C1SCL/PA.11, 7 I2C1SDA/PA.10, 8 I2C0SCL/PA.9, 9 I2C0SDA/PA.8, 10 RX1/PB.4, 11 TX1/PB.5, 12 RTS1/PB.6, 13 CTS1/PB.7, 14 LDO, 15 VDD, 16 VSS, 17 VBUS, 18 VDD33, 19 D-, 20 D+, 21 PB.0/RX0, 22 PB.1/TX0, 23 PB.2/RTS0, 24 PB.3/CTS0, 25 PC.3/MOSI00/I2SDO, 26 PC.2/MISO00/I2SDI, 27 PC.1/SPICLK0/I2SBCLK, 28 PC.0/SS00/I2SLRCLK, 29 PE.5/PWM5, 30 PB.11/TM3/PWM4, 31 PB.10/TM2, 32 PB.9/TM1, 33 PC.11/MOSI10, 34 PC.10/MISO10, 35 PC.9/SPICLK1, 36 PC.8/SS10, 37 PA.15/PWM3/I2SMCLK, 38 PA.14/PWM2, 39 PA.13/PWM1, 40 PA.12/PWM0, 41 ICE_DAT, 42 ICE_CK, 43 AVSS, 44 PA.0/ADC0, 45 PA.1/ADC1, 46 PA.2/ADC2, 47 PA.3/ADC3, 48 PA.4/ADC4, 49 ADC5/PA.5, 50 ADC6/PA.6, 51 ADC7/PA.7, 52 AVDD, 53 CPN0/PC.7, 54 CPP0/PC.6, 55 CPN1/PC.15, 56 CPP1/PC.14, 57 INT1/PB.15, 58 XT1_Out, 59 XT1_OutXT1_In, 60 /RESET, 61 VSS1, 62 VDD1, 63 PVSS, 64 STADC/TM0/PB.8

## 贴片芯片 NUC120VE3AN
designator U??, comment NUC120VE3AN
单片机; 单位: 片; 封装: LQFP100; 名称: 贴片芯片
footprint LQFP100
pins: 1 PE15, 2 PE14, 3 PE13, 4 PB14/INT0/SPISS31, 5 PB13/CPO1, 6 PB12/CLKO/CPO0, 7 X32O, 8 X32I, 9 PA11/I2C1SCL, 10 PA10/I2C1SDA, 11 PA9/I2C0SCL, 12 PA8/I2C0SDA, 13 PD8/SPISS30, 14 PD9/SPICLK3, 15 PD10/MISO30, 16 PD11/MOSI30, 17 PD12/MISO31, 18 PD13/MOSI31, 19 PB4/RX1, 20 PB5/TX1, 21 PB6/RTS1, 22 PB7/CTS1, 23 LDO, 24 VDD, 25 VSS, 26 PE8, 27 PE7, 28 VBUS, 29 VDD3.3, 30 D+, 31 D-, 32 PB0/RX0, 33 PB1/TX0, 34 PB2/RTS0, 35 PB3/CTS0, 36 PD6, 37 PD7, 38 PD14/RX2, 39 PD15/TX2, 40 PC5/MOSI01, 41 PC4/MISO01, 42 PC3/MOSI00/I2SDO, 43 PC2/MISO0/I2SDI, 44 PC1/SPICLK0/I2SBCLK, 45 PC0/SPISS00/I2SLRCLK, 46 PE6, 47 PE5/PWM5, 48 PB11/TM3/PWM4, 49 PB10/SPISS01/TM2, 50 PB9/SPISS11/TM1, 51 PE4, 52 PE3, 53 PE2, 54 PWM7/PE1, 55 PWM6/PE0, 56 MOSI11/PC13, 57 MISO11/PC12, 58 MOSI10/PC11, 59 MISO10/PC10, 60 SPICLK1/PC9, 61 SPISS10/PC8, 62 PWM3/I2SMCLK/PA15, 63 PWM2/PA14, 64 PWM1/PA13, 65 PWM0/PA12, 66 ICE_DAT, 67 ICE_CK, 68 VDD, 69 VSS, 70 AVSS, 71 ADC0/PA0, 72 ADC1/PA1, 73 ADC2/PA2, 74 ADC3/PA3, 75 ADC4/PA4, 76 ADC5/PA5, 77 ADC6/PA6, 78 ADC7/SPISS21/PA7, 79 Vref, 80 AVDD, 81 SPISS20/PD0, 82 SPICLK2/PD1, 83 MISO20/PD2, 84 MOSI20/PD3, 85 MISO21/PD4, 86 MOSI21/PD5, 87 CPN0/PC7, 88 CPP0/PC6, 89 CPN1/PC15, 90 CPP1/PC14, 91 INT1/PB15, 92 XT1_Out, 93 XT1_In, 94 /RESET, 95 VSS, 96 VDD, 97 PS2DAT, 98 PS2CLK, 99 PVSS, 100 STADC/TM0/PB8

## 贴片芯片 OP2177
designator U?, comment OP2177
2运放; 单位: 个; 封装: SOIC8; 名称: 贴片芯片
footprint SOIC8
part A pins: 1 OUT (out), 2 IN- (in), 3 IN+ (in), 4 V- (power), 8 V+ (power)
part B pins: 5 IN+ (in), 6 IN- (in), 7 OUT (out)

## 贴片芯片 OPA695
designator U?, comment OPA695
运放; 单位: 片; 封装: SOIC8; 名称: 贴片芯片
footprint SOIC8
pins: 1 NC, 2 -, 3 +, 4 -VS, 5 NC, 6 OUT, 7 +VS, 8 ~{DIS}

## 贴片芯片 OV7670
designator U?, comment OV7670
摄像头; 名称: 贴片芯片; 单位: 个; 封装: 贴片
pins: A1 AVDD (power), A2 SIO_D (io), A3 SIO_C (in), A4 D1 (out), A5 D3 (out), B1 PWDN (in), B2 VREF2 (power), B3 AGND (power), B4 D0 (out), B5 D2 (out), C1 DVDD (power), C2 VREF1 (power), D1 VSYNC (out), D2 HREF (out), E1 PCLK (out), E2 STROBE (out), E3 XCLK (in), E4 D7 (out), E5 D5 (out), F1 DOVDD (power), F2 ~{RESET} (in), F3 DOGND (power), F4 D6 (out), F5 D4 (out)

## 贴片芯片 PCA82C250
designator U?, comment PCA82C250
CAN驱动; 单位: 片; 封装: SOIC8; 名称: 贴片芯片
footprint SOIC8
pins: 1 TXD (in), 2 GND, 3 VCC, 4 RXD (out), 5 VREF, 6 CANL, 7 CANH, 8 RS

## 贴片芯片 PL2303
designator U?, comment PL2303
USB转UART; 名称: 芯片; 分装: SSOP28; 单位: 片
footprint SSOP28
pins: 1 TXD, 2 DTR_N, 3 RTS_N, 4 VDD_232, 5 RXD, 6 RI_N, 7 GND, 8 VDD, 9 DSR_N, 10 DCD_N, 11 CTS_N, 12 SHTD_N, 13 EE_CLK, 14 EE_DATA, 15 DP, 16 DM, 17 VDD_3V3, 18 GND_3V3, 19 RESET, 20 VDD, 21 GND, 22 TRI_MODEM, 23 LD_MODEM, 24 VDD_PLL, 25 GND_PLL, 26 PLL_TEST, 27 OSC1, 28 OSC2

## 贴片芯片 PL7501
designator U?, comment PL7501
电池充电; 单位: 片; 封装: SOIC8; 名称: 贴片芯片
footprint SOIC8P (Footprint not found)
pins: 1 VIN (in), 2 GND, 3 LX, 4 BOOST (out), 5 BAT, 6 PROG, 7 VSEN, 8 LED, 9 PGND

## 贴片芯片 PT4105
designator U?, comment PT4105
LED恒流驱动; 单位: 片; 封装: SOIC8; 名称: 贴片芯片
footprint SOIC8
pins: 1 CE, 2 NC, 3 VIN, 4 NC, 5 NC, 6 LX, 7 GND, 8 FB

## 贴片芯片 PW4053
designator U?, comment PW4053
电池充电; 单位: 片; 封装: SOIC8; 名称: 贴片芯片
footprint SOIC8P
pins: 1 VIN (in), 2 SGND, 3 SW, 4 VBUS (out), 5 BAT, 6 PROG, 7 NTC, 8 STAT, 9 GND

## 贴片芯片 R1240
designator U?, comment R1240
开关电源; 名称: 贴片芯片; 单位: 片; 封装: SOT23-6
footprint SOT23-6
pins: 1 CE, 2 VIN, 3 LX, 4 BST, 5 GND, 6 VFB

## 贴片芯片 RC523
designator U?, comment 贴片芯片RC523
IC读卡芯片; 单位: 片; 封装: QFN32; 名称: 贴片芯片
footprint QFN32
pins: 1 I2C, 2 PVDD, 3 DVDD, 4 DVSS, 5 PVSS, 6 NRSTPD, 7 MFIN, 8 MFOUT, 9 SVDD, 10 TVSS, 11 TX1, 12 TVDD, 13 TX2, 14 TVSS, 15 AVDD, 16 VMID, 17 RX, 18 AVSS, 19 AUX1, 20 AUX2, 21 OSCIN, 22 OSCOUT, 23 IRQ, 24 SDA/NSS/RX, 25 D1/ADR_5, 26 D2/ADR_4, 27 D3/ADR_3, 28 D4/ADR_2, 29 D5/ADR_1/SCK/DTRQ, 30 D6/ADR_0/MOSI/MX, 31 D7/SCL/MISO/TX, 32 EA

## 贴片芯片 REF198
designator U?, comment REF198
电压基准; 单位: 片; 封装: SOIC8; 名称: 贴片芯片
footprint SOIC8
pins: 1 TP, 2 VS, 3 ~{SLEEP}, 4 GND, 5 TP, 6 OUTPUT, 7 NC, 8 NC

## 贴片芯片 REF3330
designator U?, comment REF3330
3V基准; 封装: SOT23; 单位: 片; 名称: 基准芯片
footprint SOT23B BAV199
pins: 1 IN, 2 OUT, 3 GND

## 贴片芯片 RT9702A
designator U?, comment RT9702A
5V限流; 名称: 芯片; 封装: SOT23-5; 单位: 片
footprint SOT-23-5
pins: 1 EN, 2 GND, 3 ~{FLG}, 4 VIN, 5 VOUT

## 贴片芯片 SA626
designator U?, comment SA626
footprint SSOP20
pins: 1 RF IN, 2 RF BYPASS, 3 XTAL EMITTER, 4 XTAL BASE, 5 VCC, 6 RSSI FEEDBACK, 7 RSSI OUT, 8 PD CTRL, 9 AUDIO OUT, 10 QUAD, 11 LIMITER OUT, 12 LIMITER DEC, 13 LIMITER DEC, 14 LIMITER IN, 15 GROUND, 16 IF OUT, 17 IF AMP, 18 IF IN, 19 IF AMP, 20 MIXER OUT

## 贴片芯片 SN74LVC2G04D
designator U?, comment SN74LVC2G04D
2非门; 名称: 芯片; 封装: SOT23-6; 单位: 片
footprint SOT-23-6
pins: 1 1A, 2 GND, 3 2A, 4 2Y, 5 VCC, 6 1Y

## 贴片芯片 SP3232EEN
designator U?, comment SP3232EEN
电平转换; 名称: 贴片芯片; 封装: SOIC16; 单位: 个
footprint soic16 (Small Outline; 16 Leads; Body Width 3.9 mm; Pitch 1.27 mm)
pins: 1 C1+, 2 V+, 3 C1-, 4 C2+, 5 C2-, 6 V-, 7 T2OUT (out), 8 R2IN (in), 9 R2OUT (out), 10 T2IN (in), 11 T1IN (in), 12 R1OUT (out), 13 R1IN (in), 14 T1OUT (out), 15 GND, 16 VCC
text: RS232; TTL

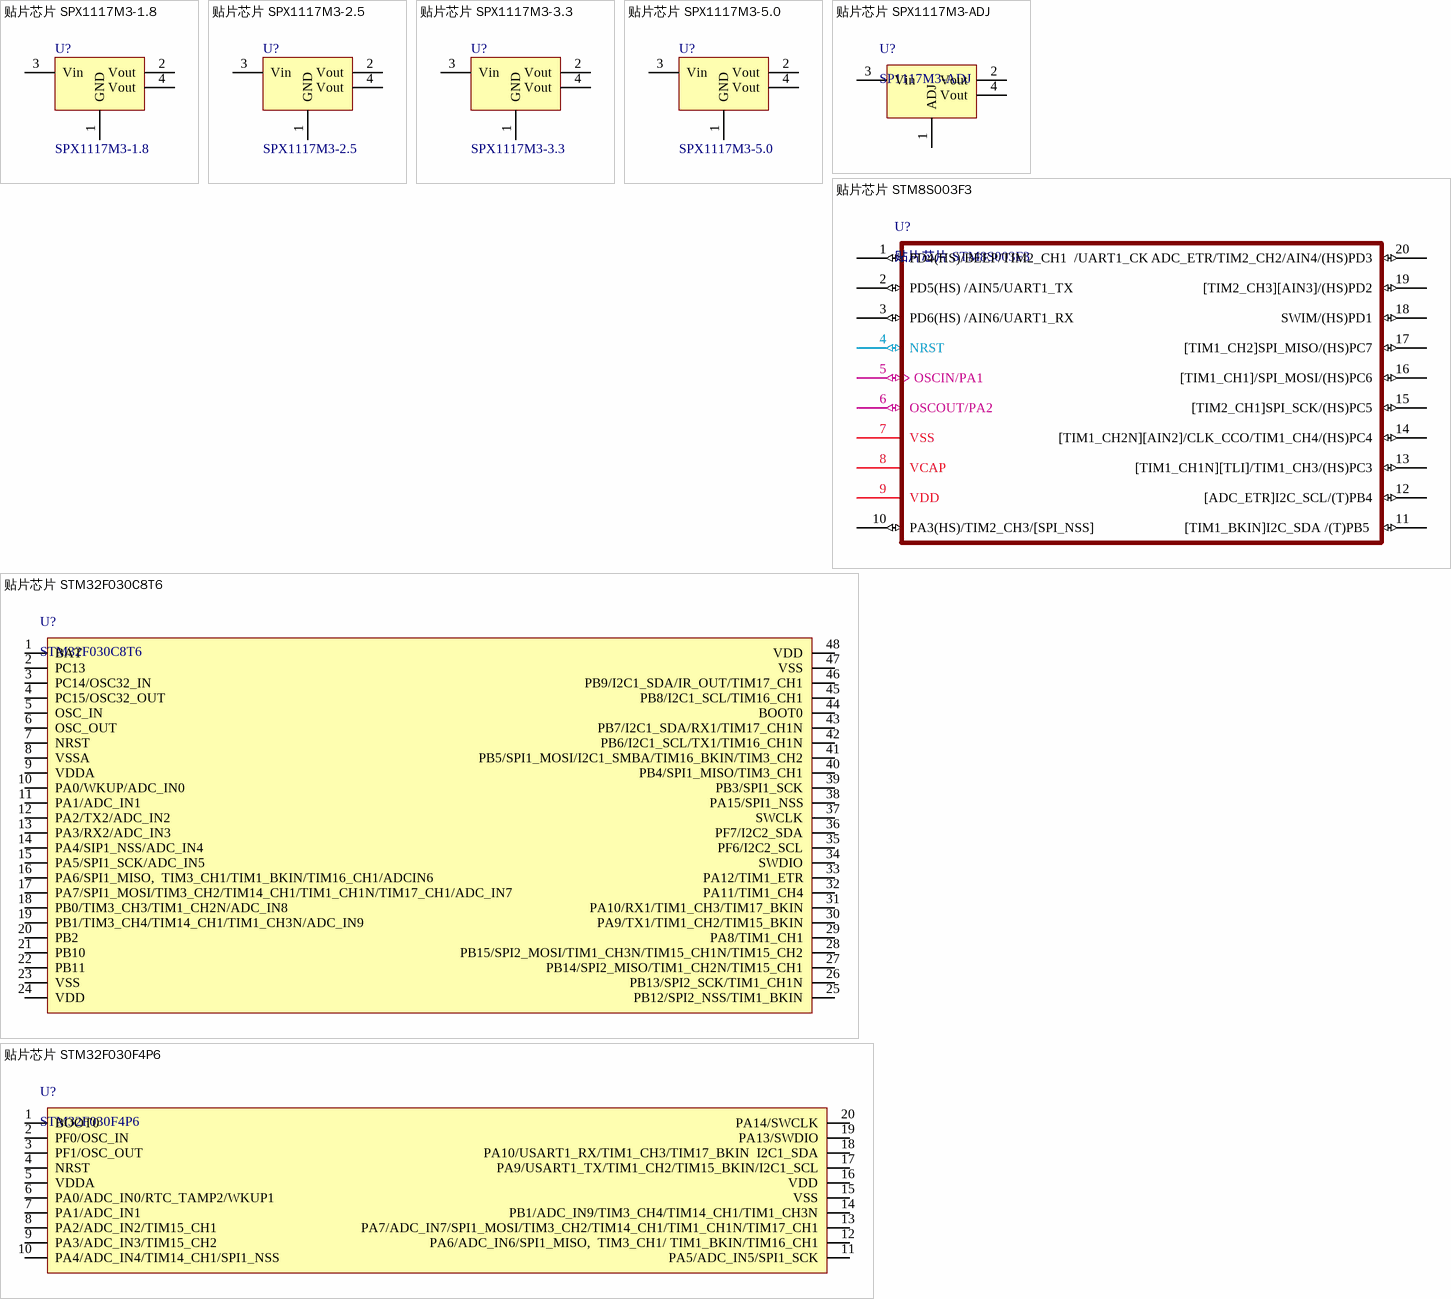
[diagram p21: symbols 贴片芯片 SPX1117M3-1.8 to 贴片芯片 STM32F030F4P6]

## 贴片芯片 SPX1117M3-1.8
designator U?, comment SPX1117M3-1.8
LDO; 名称: 贴片芯片; 封装: SOT223; 单位: 个
footprint SOT223 (SOT-223/SC-73; 4 Leads; Body 6.7 x 7.3 mm, inc. leads (LxW max))
pins: 1 GND, 2 Vout, 3 Vin, 4 Vout

## 贴片芯片 SPX1117M3-2.5
designator U?, comment SPX1117M3-2.5
LDO; 名称: 贴片芯片; 封装: SOT223; 单位: 个
footprint SOT223 (SOT-223/SC-73; 4 Leads; Body 6.7 x 7.3 mm, inc. leads (LxW max))
pins: 1 GND, 2 Vout, 3 Vin, 4 Vout

## 贴片芯片 SPX1117M3-3.3
designator U?, comment SPX1117M3-3.3
LDO; 名称: 贴片芯片; 封装: SOT223; 单位: 个
footprint SOT223 (SOT-223/SC-73; 4 Leads; Body 6.7 x 7.3 mm, inc. leads (LxW max))
pins: 1 GND, 2 Vout, 3 Vin, 4 Vout

## 贴片芯片 SPX1117M3-5.0
designator U?, comment SPX1117M3-5.0
LDO; 名称: 贴片芯片; 封装: SOT223; 单位: 个
footprint SOT223 (SOT-223/SC-73; 4 Leads; Body 6.7 x 7.3 mm, inc. leads (LxW max))
pins: 1 GND, 2 Vout, 3 Vin, 4 Vout

## 贴片芯片 SPX1117M3-ADJ
designator U?, comment SP1117M3-ADJ
LDO; 单位: 片; 封装: SOT223; 名称: 贴片芯片
footprint SOT223 (SOT-223/SC-73; 4 Leads; Body 6.7 x 7.3 mm, inc. leads (LxW max))
pins: 1 ADJ, 2 Vout, 3 Vin, 4 Vout

## 贴片芯片 STM8S003F3
designator U?
单片机; 名称: 芯片; 封装: TSSOP20; 单位: 片
footprint TSSOP20 (20-pin, 4.40 mm body, 0.65 mm pitch)
pins: 1 PD4(HS)/BEEP/TIM2_CH1  /UART1_CK (io), 2 PD5(HS) /AIN5/UART1_TX (io), 3 PD6(HS) /AIN6/UART1_RX (io), 4 NRST (io), 5 OSCIN/PA1 (io), 6 OSCOUT/PA2 (io), 7 VSS (power), 8 VCAP (power), 9 VDD (power), 10 PA3(HS)/TIM2_CH3/[SPI_NSS]   (io), 11 [TIM1_BKIN]I2C_SDA /(T)PB5  (io), 12 [ADC_ETR]I2C_SCL/(T)PB4 (io), 13 [TIM1_CH1N][TLI]/TIM1_CH3/(HS)PC3 (io), 14 [TIM1_CH2N][AIN2]/CLK_CCO/TIM1_CH4/(HS)PC4 (io), 15 [TIM2_CH1]SPI_SCK/(HS)PC5 (io), 16 [TIM1_CH1]/SPI_MOSI/(HS)PC6 (io), 17 [TIM1_CH2]SPI_MISO/(HS)PC7 (io), 18 SWIM/(HS)PD1 (io), 19 [TIM2_CH3][AIN3]/(HS)PD2 (io), 20 ADC_ETR/TIM2_CH2/AIN4/(HS)PD3 (io)

## 贴片芯片 STM32F030C8T6
designator U?, comment STM32F030C8T6
单片机; 单位: 片; 封装: TQFP48; 名称: 贴片芯片
footprint TQFP48
pins: 1 BAT, 2 PC13, 3 PC14/OSC32_IN, 4 PC15/OSC32_OUT, 5 OSC_IN, 6 OSC_OUT, 7 NRST, 8 VSSA, 9 VDDA, 10 PA0/WKUP/ADC_IN0, 11 PA1/ADC_IN1, 12 PA2/TX2/ADC_IN2, 13 PA3/RX2/ADC_IN3, 14 PA4/SIP1_NSS/ADC_IN4, 15 PA5/SPI1_SCK/ADC_IN5, 16 PA6/SPI1_MISO,  TIM3_CH1/TIM1_BKIN/TIM16_CH1/ADCIN6, 17 PA7/SPI1_MOSI/TIM3_CH2/TIM14_CH1/TIM1_CH1N/TIM17_CH1/ADC_IN7, 18 PB0/TIM3_CH3/TIM1_CH2N/ADC_IN8, 19 PB1/TIM3_CH4/TIM14_CH1/TIM1_CH3N/ADC_IN9, 20 PB2, 21 PB10, 22 PB11, 23 VSS, 24 VDD, 25 PB12/SPI2_NSS/TIM1_BKIN, 26 PB13/SPI2_SCK/TIM1_CH1N, 27 PB14/SPI2_MISO/TIM1_CH2N/TIM15_CH1, 28 PB15/SPI2_MOSI/TIM1_CH3N/TIM15_CH1N/TIM15_CH2, 29 PA8/TIM1_CH1, 30 PA9/TX1/TIM1_CH2/TIM15_BKIN, 31 PA10/RX1/TIM1_CH3/TIM17_BKIN, 32 PA11/TIM1_CH4, 33 PA12/TIM1_ETR, 34 SWDIO, 35 PF6/I2C2_SCL, 36 PF7/I2C2_SDA, 37 SWCLK, 38 PA15/SPI1_NSS, 39 PB3/SPI1_SCK, 40 PB4/SPI1_MISO/TIM3_CH1, 41 PB5/SPI1_MOSI/I2C1_SMBA/TIM16_BKIN/TIM3_CH2, 42 PB6/I2C1_SCL/TX1/TIM16_CH1N, 43 PB7/I2C1_SDA/RX1/TIM17_CH1N, 44 BOOT0, 45 PB8/I2C1_SCL/TIM16_CH1, 46 PB9/I2C1_SDA/IR_OUT/TIM17_CH1, 47 VSS, 48 VDD

## 贴片芯片 STM32F030F4P6
designator U?, comment STM32F030F4P6
单片机; 封装: TSSOP20; 单位: 片; 名称: 贴片芯片
footprint TSSOP20 (Shrink Small Outline; 20 Leads; Body Width 4.4 mm; Pitch 0.65 mm)
pins: 1 BOOT0, 2 PF0/OSC_IN, 3 PF1/OSC_OUT, 4 NRST, 5 VDDA, 6 PA0/ADC_IN0/RTC_TAMP2/WKUP1, 7 PA1/ADC_IN1, 8 PA2/ADC_IN2/TIM15_CH1, 9 PA3/ADC_IN3/TIM15_CH2, 10 PA4/ADC_IN4/TIM14_CH1/SPI1_NSS, 11 PA5/ADC_IN5/SPI1_SCK, 12 PA6/ADC_IN6/SPI1_MISO,  TIM3_CH1/ TIM1_BKIN/TIM16_CH1, 13 PA7/ADC_IN7/SPI1_MOSI/TIM3_CH2/TIM14_CH1/TIM1_CH1N/TIM17_CH1, 14 PB1/ADC_IN9/TIM3_CH4/TIM14_CH1/TIM1_CH3N, 15 VSS, 16 VDD, 17 PA9/USART1_TX/TIM1_CH2/TIM15_BKIN/I2C1_SCL, 18 PA10/USART1_RX/TIM1_CH3/TIM17_BKIN  I2C1_SDA, 19 PA13/SWDIO, 20 PA14/SWCLK

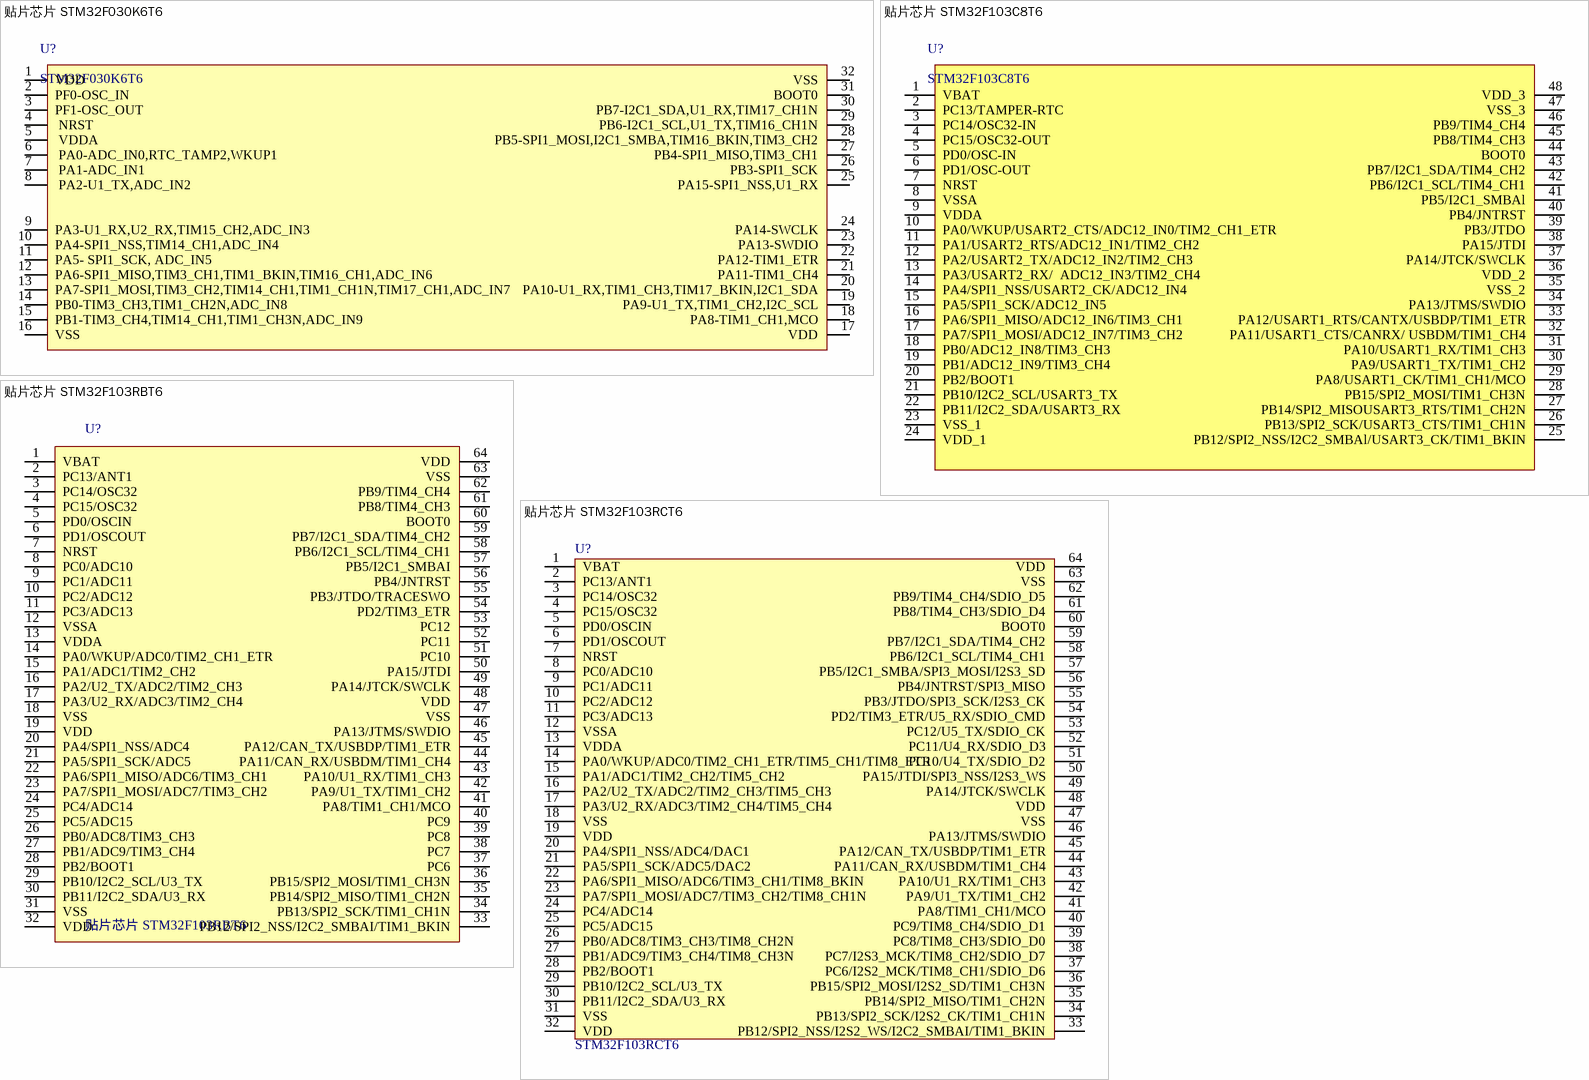
[diagram p22: symbols 贴片芯片 STM32F030K6T6 to 贴片芯片 STM32F103RCT6]

## 贴片芯片 STM32F030K6T6
designator U?, comment STM32F030K6T6
单片机; 封装: LQPF32; 单位: 片; 名称: 贴片芯片
footprint LQFP32 (Footprint not found)
pins: 1 VDD, 2 PF0-OSC_IN, 3 PF1-OSC_OUT, 4  NRST, 5  VDDA, 6  PA0-ADC_IN0,RTC_TAMP2,WKUP1, 7  PA1-ADC_IN1, 8  PA2-U1_TX,ADC_IN2, 9 PA3-U1_RX,U2_RX,TIM15_CH2,ADC_IN3, 10 PA4-SPI1_NSS,TIM14_CH1,ADC_IN4, 11 PA5- SPI1_SCK, ADC_IN5, 12 PA6-SPI1_MISO,TIM3_CH1,TIM1_BKIN,TIM16_CH1,ADC_IN6, 13 PA7-SPI1_MOSI,TIM3_CH2,TIM14_CH1,TIM1_CH1N,TIM17_CH1,ADC_IN7, 14 PB0-TIM3_CH3,TIM1_CH2N,ADC_IN8, 15 PB1-TIM3_CH4,TIM14_CH1,TIM1_CH3N,ADC_IN9, 16 VSS, 17 VDD, 18  PA8-TIM1_CH1,MCO, 19  PA9-U1_TX,TIM1_CH2,I2C_SCL, 20  PA10-U1_RX,TIM1_CH3,TIM17_BKIN,I2C1_SDA, 21  PA11-TIM1_CH4, 22  PA12-TIM1_ETR, 23  PA13-SWDIO, 24  PA14-SWCLK, 25  PA15-SPI1_NSS,U1_RX, 26 PB3-SPI1_SCK, 27 PB4-SPI1_MISO,TIM3_CH1, 28 PB5-SPI1_MOSI,I2C1_SMBA,TIM16_BKIN,TIM3_CH2, 29 PB6-I2C1_SCL,U1_TX,TIM16_CH1N, 30 PB7-I2C1_SDA,U1_RX,TIM17_CH1N, 31 BOOT0, 32 VSS

## 贴片芯片 STM32F103C8T6
designator U?, comment STM32F103C8T6
单片机; 名称: 贴片芯片; 封装: TQFP48; 单位: 片
footprint LQFP48
pins: 1 VBAT, 2 PC13/TAMPER-RTC, 3 PC14/OSC32-IN, 4 PC15/OSC32-OUT, 5 PD0/OSC-IN, 6 PD1/OSC-OUT, 7 NRST, 8 VSSA, 9 VDDA, 10 PA0/WKUP/USART2_CTS/ADC12_IN0/TIM2_CH1_ETR, 11 PA1/USART2_RTS/ADC12_IN1/TIM2_CH2, 12 PA2/USART2_TX/ADC12_IN2/TIM2_CH3, 13 PA3/USART2_RX/  ADC12_IN3/TIM2_CH4, 14 PA4/SPI1_NSS/USART2_CK/ADC12_IN4, 15 PA5/SPI1_SCK/ADC12_IN5, 16 PA6/SPI1_MISO/ADC12_IN6/TIM3_CH1, 17 PA7/SPI1_MOSI/ADC12_IN7/TIM3_CH2, 18 PB0/ADC12_IN8/TIM3_CH3, 19 PB1/ADC12_IN9/TIM3_CH4, 20 PB2/BOOT1, 21 PB10/I2C2_SCL/USART3_TX, 22 PB11/I2C2_SDA/USART3_RX, 23 VSS_1, 24 VDD_1, 25 PB12/SPI2_NSS/I2C2_SMBAl/USART3_CK/TIM1_BKIN, 26 PB13/SPI2_SCK/USART3_CTS/TIM1_CH1N, 27 PB14/SPI2_MISOUSART3_RTS/TIM1_CH2N, 28 PB15/SPI2_MOSI/TIM1_CH3N, 29 PA8/USART1_CK/TIM1_CH1/MCO, 30 PA9/USART1_TX/TIM1_CH2, 31 PA10/USART1_RX/TIM1_CH3, 32 PA11/USART1_CTS/CANRX/ USBDM/TIM1_CH4, 33 PA12/USART1_RTS/CANTX/USBDP/TIM1_ETR, 34 PA13/JTMS/SWDIO, 35 VSS_2, 36 VDD_2, 37 PA14/JTCK/SWCLK, 38 PA15/JTDI, 39 PB3/JTDO, 40 PB4/JNTRST, 41 PB5/I2C1_SMBAl, 42 PB6/I2C1_SCL/TIM4_CH1, 43 PB7/I2C1_SDA/TIM4_CH2, 44 BOOT0, 45 PB8/TIM4_CH3, 46 PB9/TIM4_CH4, 47 VSS_3, 48 VDD_3

## 贴片芯片 STM32F103RBT6
designator U?
单片机; 名称: 芯片; 封装: LQFP64; 单位: 片
footprint LQFP64
pins: 1 VBAT, 2 PC13/ANT1, 3 PC14/OSC32, 4 PC15/OSC32, 5 PD0/OSCIN, 6 PD1/OSCOUT, 7 NRST, 8 PC0/ADC10, 9 PC1/ADC11, 10 PC2/ADC12, 11 PC3/ADC13, 12 VSSA, 13 VDDA, 14 PA0/WKUP/ADC0/TIM2_CH1_ETR, 15 PA1/ADC1/TIM2_CH2, 16 PA2/U2_TX/ADC2/TIM2_CH3, 17 PA3/U2_RX/ADC3/TIM2_CH4, 18 VSS, 19 VDD, 20 PA4/SPI1_NSS/ADC4, 21 PA5/SPI1_SCK/ADC5, 22 PA6/SPI1_MISO/ADC6/TIM3_CH1, 23 PA7/SPI1_MOSI/ADC7/TIM3_CH2, 24 PC4/ADC14, 25 PC5/ADC15, 26 PB0/ADC8/TIM3_CH3, 27 PB1/ADC9/TIM3_CH4, 28 PB2/BOOT1, 29 PB10/I2C2_SCL/U3_TX, 30 PB11/I2C2_SDA/U3_RX, 31 VSS, 32 VDD, 33 PB12/SPI2_NSS/I2C2_SMBAI/TIM1_BKIN, 34 PB13/SPI2_SCK/TIM1_CH1N, 35 PB14/SPI2_MISO/TIM1_CH2N, 36 PB15/SPI2_MOSI/TIM1_CH3N, 37 PC6, 38 PC7, 39 PC8, 40 PC9, 41 PA8/TIM1_CH1/MCO, 42 PA9/U1_TX/TIM1_CH2, 43 PA10/U1_RX/TIM1_CH3, 44 PA11/CAN_RX/USBDM/TIM1_CH4, 45 PA12/CAN_TX/USBDP/TIM1_ETR, 46 PA13/JTMS/SWDIO, 47 VSS, 48 VDD, 49 PA14/JTCK/SWCLK, 50 PA15/JTDI, 51 PC10, 52 PC11, 53 PC12, 54 PD2/TIM3_ETR, 55 PB3/JTDO/TRACESWO, 56 PB4/JNTRST, 57 PB5/I2C1_SMBAI, 58 PB6/I2C1_SCL/TIM4_CH1, 59 PB7/I2C1_SDA/TIM4_CH2, 60 BOOT0, 61 PB8/TIM4_CH3, 62 PB9/TIM4_CH4, 63 VSS, 64 VDD

## 贴片芯片 STM32F103RCT6
designator U?, comment STM32F103RCT6
单片机; 名称: 芯片; 封装: LQFP64; 单位: 片
footprint LQFP64
pins: 1 VBAT, 2 PC13/ANT1, 3 PC14/OSC32, 4 PC15/OSC32, 5 PD0/OSCIN, 6 PD1/OSCOUT, 7 NRST, 8 PC0/ADC10, 9 PC1/ADC11, 10 PC2/ADC12, 11 PC3/ADC13, 12 VSSA, 13 VDDA, 14 PA0/WKUP/ADC0/TIM2_CH1_ETR/TIM5_CH1/TIM8_ETR, 15 PA1/ADC1/TIM2_CH2/TIM5_CH2, 16 PA2/U2_TX/ADC2/TIM2_CH3/TIM5_CH3, 17 PA3/U2_RX/ADC3/TIM2_CH4/TIM5_CH4, 18 VSS, 19 VDD, 20 PA4/SPI1_NSS/ADC4/DAC1, 21 PA5/SPI1_SCK/ADC5/DAC2, 22 PA6/SPI1_MISO/ADC6/TIM3_CH1/TIM8_BKIN, 23 PA7/SPI1_MOSI/ADC7/TIM3_CH2/TIM8_CH1N, 24 PC4/ADC14, 25 PC5/ADC15, 26 PB0/ADC8/TIM3_CH3/TIM8_CH2N, 27 PB1/ADC9/TIM3_CH4/TIM8_CH3N, 28 PB2/BOOT1, 29 PB10/I2C2_SCL/U3_TX, 30 PB11/I2C2_SDA/U3_RX, 31 VSS, 32 VDD, 33 PB12/SPI2_NSS/I2S2_WS/I2C2_SMBAI/TIM1_BKIN, 34 PB13/SPI2_SCK/I2S2_CK/TIM1_CH1N, 35 PB14/SPI2_MISO/TIM1_CH2N, 36 PB15/SPI2_MOSI/I2S2_SD/TIM1_CH3N, 37 PC6/I2S2_MCK/TIM8_CH1/SDIO_D6, 38 PC7/I2S3_MCK/TIM8_CH2/SDIO_D7, 39 PC8/TIM8_CH3/SDIO_D0, 40 PC9/TIM8_CH4/SDIO_D1, 41 PA8/TIM1_CH1/MCO, 42 PA9/U1_TX/TIM1_CH2, 43 PA10/U1_RX/TIM1_CH3, 44 PA11/CAN_RX/USBDM/TIM1_CH4, 45 PA12/CAN_TX/USBDP/TIM1_ETR, 46 PA13/JTMS/SWDIO, 47 VSS, 48 VDD, 49 PA14/JTCK/SWCLK, 50 PA15/JTDI/SPI3_NSS/I2S3_WS, 51 PC10/U4_TX/SDIO_D2, 52 PC11/U4_RX/SDIO_D3, 53 PC12/U5_TX/SDIO_CK, 54 PD2/TIM3_ETR/U5_RX/SDIO_CMD, 55 PB3/JTDO/SPI3_SCK/I2S3_CK, 56 PB4/JNTRST/SPI3_MISO, 57 PB5/I2C1_SMBA/SPI3_MOSI/I2S3_SD, 58 PB6/I2C1_SCL/TIM4_CH1, 59 PB7/I2C1_SDA/TIM4_CH2, 60 BOOT0, 61 PB8/TIM4_CH3/SDIO_D4, 62 PB9/TIM4_CH4/SDIO_D5, 63 VSS, 64 VDD

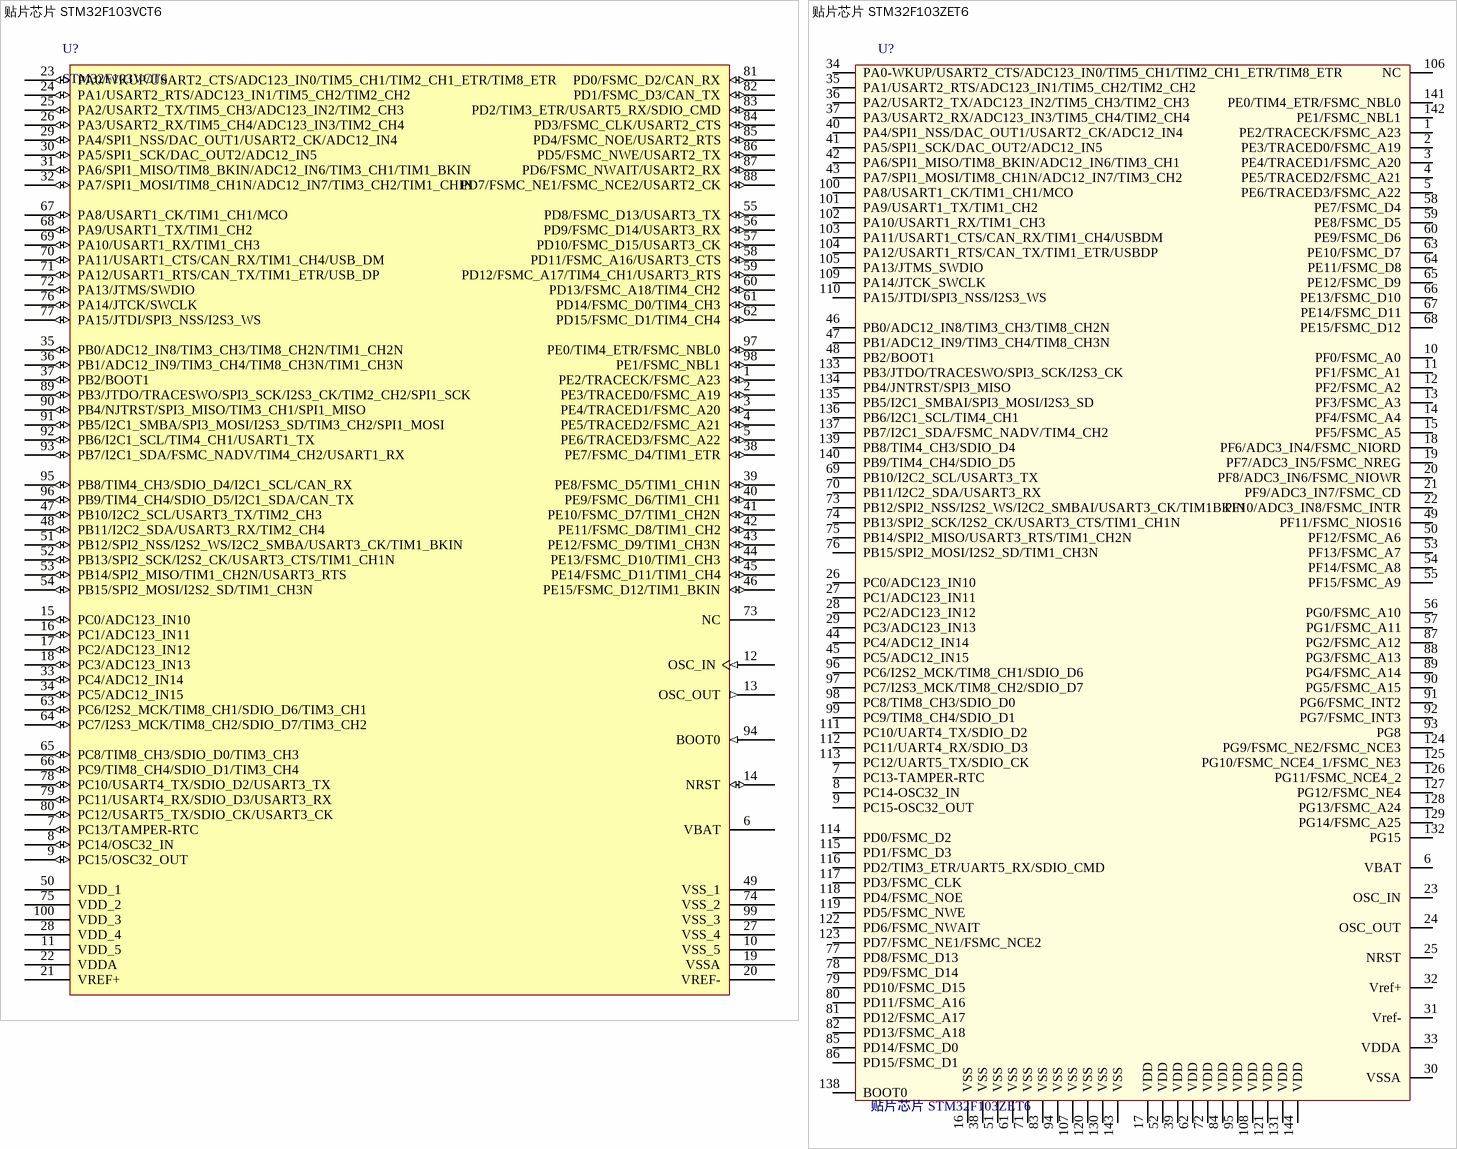
[diagram p23: symbols 贴片芯片 STM32F103VCT6 to 贴片芯片 STM32F103ZET6]

## 贴片芯片 STM32F103VCT6
designator U?, comment STM32F103VCT6
单片机; 名称: 芯片; 单位: 片; 封装: LQFP100
footprint LQFP100
pins: 1 PE2/TRACECK/FSMC_A23 (io), 2 PE3/TRACED0/FSMC_A19 (io), 3 PE4/TRACED1/FSMC_A20 (io), 4 PE5/TRACED2/FSMC_A21 (io), 5 PE6/TRACED3/FSMC_A22 (io), 6 VBAT (power), 7 PC13/TAMPER-RTC (io), 8 PC14/OSC32_IN (io), 9 PC15/OSC32_OUT (io), 10 VSS_5 (power), 11 VDD_5 (power), 12 OSC_IN (in), 13 OSC_OUT (out), 14 NRST (io), 15 PC0/ADC123_IN10 (io), 16 PC1/ADC123_IN11 (io), 17 PC2/ADC123_IN12 (io), 18 PC3/ADC123_IN13 (io), 19 VSSA (power), 20 VREF- (power), 21 VREF+ (power), 22 VDDA (power), 23 PA0/WKUP/USART2_CTS/ADC123_IN0/TIM5_CH1/TIM2_CH1_ETR/TIM8_ETR (io), 24 PA1/USART2_RTS/ADC123_IN1/TIM5_CH2/TIM2_CH2 (io), 25 PA2/USART2_TX/TIM5_CH3/ADC123_IN2/TIM2_CH3 (io), 26 PA3/USART2_RX/TIM5_CH4/ADC123_IN3/TIM2_CH4 (io), 27 VSS_4 (power), 28 VDD_4 (power), 29 PA4/SPI1_NSS/DAC_OUT1/USART2_CK/ADC12_IN4 (io), 30 PA5/SPI1_SCK/DAC_OUT2/ADC12_IN5 (io), 31 PA6/SPI1_MISO/TIM8_BKIN/ADC12_IN6/TIM3_CH1/TIM1_BKIN (io), 32 PA7/SPI1_MOSI/TIM8_CH1N/ADC12_IN7/TIM3_CH2/TIM1_CHIN (io), 33 PC4/ADC12_IN14 (io), 34 PC5/ADC12_IN15 (io), 35 PB0/ADC12_IN8/TIM3_CH3/TIM8_CH2N/TIM1_CH2N (io), 36 PB1/ADC12_IN9/TIM3_CH4/TIM8_CH3N/TIM1_CH3N (io), 37 PB2/BOOT1 (io), 38 PE7/FSMC_D4/TIM1_ETR (io), 39 PE8/FSMC_D5/TIM1_CH1N (io), 40 PE9/FSMC_D6/TIM1_CH1 (io), 41 PE10/FSMC_D7/TIM1_CH2N (io), 42 PE11/FSMC_D8/TIM1_CH2 (io), 43 PE12/FSMC_D9/TIM1_CH3N (io), 44 PE13/FSMC_D10/TIM1_CH3 (io), 45 PE14/FSMC_D11/TIM1_CH4 (io), 46 PE15/FSMC_D12/TIM1_BKIN (io), 47 PB10/I2C2_SCL/USART3_TX/TIM2_CH3 (io), 48 PB11/I2C2_SDA/USART3_RX/TIM2_CH4 (io), 49 VSS_1 (power), 50 VDD_1 (power), 51 PB12/SPI2_NSS/I2S2_WS/I2C2_SMBA/USART3_CK/TIM1_BKIN (io), 52 PB13/SPI2_SCK/I2S2_CK/USART3_CTS/TIM1_CH1N (io), 53 PB14/SPI2_MISO/TIM1_CH2N/USART3_RTS (io), 54 PB15/SPI2_MOSI/I2S2_SD/TIM1_CH3N (io), 55 PD8/FSMC_D13/USART3_TX (io), 56 PD9/FSMC_D14/USART3_RX (io), 57 PD10/FSMC_D15/USART3_CK (io), 58 PD11/FSMC_A16/USART3_CTS (io), 59 PD12/FSMC_A17/TIM4_CH1/USART3_RTS (io), 60 PD13/FSMC_A18/TIM4_CH2 (io), 61 PD14/FSMC_D0/TIM4_CH3 (io), 62 PD15/FSMC_D1/TIM4_CH4 (io), 63 PC6/I2S2_MCK/TIM8_CH1/SDIO_D6/TIM3_CH1 (io), 64 PC7/I2S3_MCK/TIM8_CH2/SDIO_D7/TIM3_CH2 (io), 65 PC8/TIM8_CH3/SDIO_D0/TIM3_CH3 (io), 66 PC9/TIM8_CH4/SDIO_D1/TIM3_CH4 (io), 67 PA8/USART1_CK/TIM1_CH1/MCO (io), 68 PA9/USART1_TX/TIM1_CH2 (io), 69 PA10/USART1_RX/TIM1_CH3 (io), 70 PA11/USART1_CTS/CAN_RX/TIM1_CH4/USB_DM (io), 71 PA12/USART1_RTS/CAN_TX/TIM1_ETR/USB_DP (io), 72 PA13/JTMS/SWDIO (io), 73 NC, 74 VSS_2 (power), 75 VDD_2 (power), 76 PA14/JTCK/SWCLK (io), 77 PA15/JTDI/SPI3_NSS/I2S3_WS (io), 78 PC10/USART4_TX/SDIO_D2/USART3_TX (io), 79 PC11/USART4_RX/SDIO_D3/USART3_RX (io), 80 PC12/USART5_TX/SDIO_CK/USART3_CK (io), 81 PD0/FSMC_D2/CAN_RX (io), 82 PD1/FSMC_D3/CAN_TX (io), 83 PD2/TIM3_ETR/USART5_RX/SDIO_CMD (io), 84 PD3/FSMC_CLK/USART2_CTS (io), 85 PD4/FSMC_NOE/USART2_RTS (io), 86 PD5/FSMC_NWE/USART2_TX (io), 87 PD6/FSMC_NWAIT/USART2_RX (io), 88 PD7/FSMC_NE1/FSMC_NCE2/USART2_CK (io), 89 PB3/JTDO/TRACESWO/SPI3_SCK/I2S3_CK/TIM2_CH2/SPI1_SCK (io), 90 PB4/NJTRST/SPI3_MISO/TIM3_CH1/SPI1_MISO (io), 91 PB5/I2C1_SMBA/SPI3_MOSI/I2S3_SD/TIM3_CH2/SPI1_MOSI (io), 92 PB6/I2C1_SCL/TIM4_CH1/USART1_TX (io), 93 PB7/I2C1_SDA/FSMC_NADV/TIM4_CH2/USART1_RX (io), 94 BOOT0 (in), 95 PB8/TIM4_CH3/SDIO_D4/I2C1_SCL/CAN_RX (io), 96 PB9/TIM4_CH4/SDIO_D5/I2C1_SDA/CAN_TX (io), 97 PE0/TIM4_ETR/FSMC_NBL0 (io), 98 PE1/FSMC_NBL1 (io), 99 VSS_3 (power), 100 VDD_3 (power)

## 贴片芯片 STM32F103ZET6
designator U?
STM32F103ZET6; 封装: LQPF144; 单位: 片; 名称: 贴片芯片
footprint LQFP144
pins: 1 PE2/TRACECK/FSMC_A23, 2 PE3/TRACED0/FSMC_A19, 3 PE4/TRACED1/FSMC_A20, 4 PE5/TRACED2/FSMC_A21, 5 PE6/TRACED3/FSMC_A22, 6 VBAT, 7 PC13-TAMPER-RTC, 8 PC14-OSC32_IN, 9 PC15-OSC32_OUT, 10 PF0/FSMC_A0, 11 PF1/FSMC_A1, 12 PF2/FSMC_A2, 13 PF3/FSMC_A3, 14 PF4/FSMC_A4, 15 PF5/FSMC_A5, 16 VSS, 17 VDD, 18 PF6/ADC3_IN4/FSMC_NIORD, 19 PF7/ADC3_IN5/FSMC_NREG, 20 PF8/ADC3_IN6/FSMC_NIOWR, 21 PF9/ADC3_IN7/FSMC_CD, 22 PF10/ADC3_IN8/FSMC_INTR, 23 OSC_IN, 24 OSC_OUT, 25 NRST, 26 PC0/ADC123_IN10, 27 PC1/ADC123_IN11, 28 PC2/ADC123_IN12, 29 PC3/ADC123_IN13, 30 VSSA, 31 Vref-, 32 Vref+, 33 VDDA, 34 PA0-WKUP/USART2_CTS/ADC123_IN0/TIM5_CH1/TIM2_CH1_ETR/TIM8_ETR, 35 PA1/USART2_RTS/ADC123_IN1/TIM5_CH2/TIM2_CH2, 36 PA2/USART2_TX/ADC123_IN2/TIM5_CH3/TIM2_CH3, 37 PA3/USART2_RX/ADC123_IN3/TIM5_CH4/TIM2_CH4, 38 VSS, 39 VDD, 40 PA4/SPI1_NSS/DAC_OUT1/USART2_CK/ADC12_IN4, 41 PA5/SPI1_SCK/DAC_OUT2/ADC12_IN5, 42 PA6/SPI1_MISO/TIM8_BKIN/ADC12_IN6/TIM3_CH1, 43 PA7/SPI1_MOSI/TIM8_CH1N/ADC12_IN7/TIM3_CH2, 44 PC4/ADC12_IN14, 45 PC5/ADC12_IN15, 46 PB0/ADC12_IN8/TIM3_CH3/TIM8_CH2N, 47 PB1/ADC12_IN9/TIM3_CH4/TIM8_CH3N, 48 PB2/BOOT1, 49 PF11/FSMC_NIOS16, 50 PF12/FSMC_A6, 51 VSS, 52 VDD, 53 PF13/FSMC_A7, 54 PF14/FSMC_A8, 55 PF15/FSMC_A9, 56 PG0/FSMC_A10, 57 PG1/FSMC_A11, 58 PE7/FSMC_D4, 59 PE8/FSMC_D5, 60 PE9/FSMC_D6, 61 VSS, 62 VDD, 63 PE10/FSMC_D7, 64 PE11/FSMC_D8, 65 PE12/FSMC_D9, 66 PE13/FSMC_D10, 67 PE14/FSMC_D11, 68 PE15/FSMC_D12, 69 PB10/I2C2_SCL/USART3_TX, 70 PB11/I2C2_SDA/USART3_RX, 71 VSS, 72 VDD, 73 PB12/SPI2_NSS/I2S2_WS/I2C2_SMBAI/USART3_CK/TIM1BKIN, 74 PB13/SPI2_SCK/I2S2_CK/USART3_CTS/TIM1_CH1N, 75 PB14/SPI2_MISO/USART3_RTS/TIM1_CH2N, 76 PB15/SPI2_MOSI/I2S2_SD/TIM1_CH3N, 77 PD8/FSMC_D13, 78 PD9/FSMC_D14, 79 PD10/FSMC_D15, 80 PD11/FSMC_A16, 81 PD12/FSMC_A17, 82 PD13/FSMC_A18, 83 VSS, 84 VDD, 85 PD14/FSMC_D0, 86 PD15/FSMC_D1, 87 PG2/FSMC_A12, 88 PG3/FSMC_A13, 89 PG4/FSMC_A14, 90 PG5/FSMC_A15, 91 PG6/FSMC_INT2, 92 PG7/FSMC_INT3, 93 PG8, 94 VSS, 95 VDD, 96 PC6/I2S2_MCK/TIM8_CH1/SDIO_D6, 97 PC7/I2S3_MCK/TIM8_CH2/SDIO_D7, 98 PC8/TIM8_CH3/SDIO_D0, 99 PC9/TIM8_CH4/SDIO_D1, 100 PA8/USART1_CK/TIM1_CH1/MCO, 101 PA9/USART1_TX/TIM1_CH2, 102 PA10/USART1_RX/TIM1_CH3, 103 PA11/USART1_CTS/CAN_RX/TIM1_CH4/USBDM, 104 PA12/USART1_RTS/CAN_TX/TIM1_ETR/USBDP, 105 PA13/JTMS_SWDIO, 106 NC, 107 VSS, 108 VDD, 109 PA14/JTCK_SWCLK, 110 PA15/JTDI/SPI3_NSS/I2S3_WS, 111 PC10/UART4_TX/SDIO_D2, 112 PC11/UART4_RX/SDIO_D3, 113 PC12/UART5_TX/SDIO_CK, 114 PD0/FSMC_D2, 115 PD1/FSMC_D3, 116 PD2/TIM3_ETR/UART5_RX/SDIO_CMD, 117 PD3/FSMC_CLK, 118 PD4/FSMC_NOE, 119 PD5/FSMC_NWE, 120 VSS, 121 VDD, 122 PD6/FSMC_NWAIT, 123 PD7/FSMC_NE1/FSMC_NCE2, 124 PG9/FSMC_NE2/FSMC_NCE3, 125 PG10/FSMC_NCE4_1/FSMC_NE3, 126 PG11/FSMC_NCE4_2, 127 PG12/FSMC_NE4, 128 PG13/FSMC_A24, 129 PG14/FSMC_A25, 130 VSS, 131 VDD, 132 PG15, 133 PB3/JTDO/TRACESWO/SPI3_SCK/I2S3_CK, 134 PB4/JNTRST/SPI3_MISO, 135 PB5/I2C1_SMBAI/SPI3_MOSI/I2S3_SD, 136 PB6/I2C1_SCL/TIM4_CH1, 137 PB7/I2C1_SDA/FSMC_NADV/TIM4_CH2, 138 BOOT0, 139 PB8/TIM4_CH3/SDIO_D4, 140 PB9/TIM4_CH4/SDIO_D5, 141 PE0/TIM4_ETR/FSMC_NBL0, 142 PE1/FSMC_NBL1, 143 VSS, 144 VDD

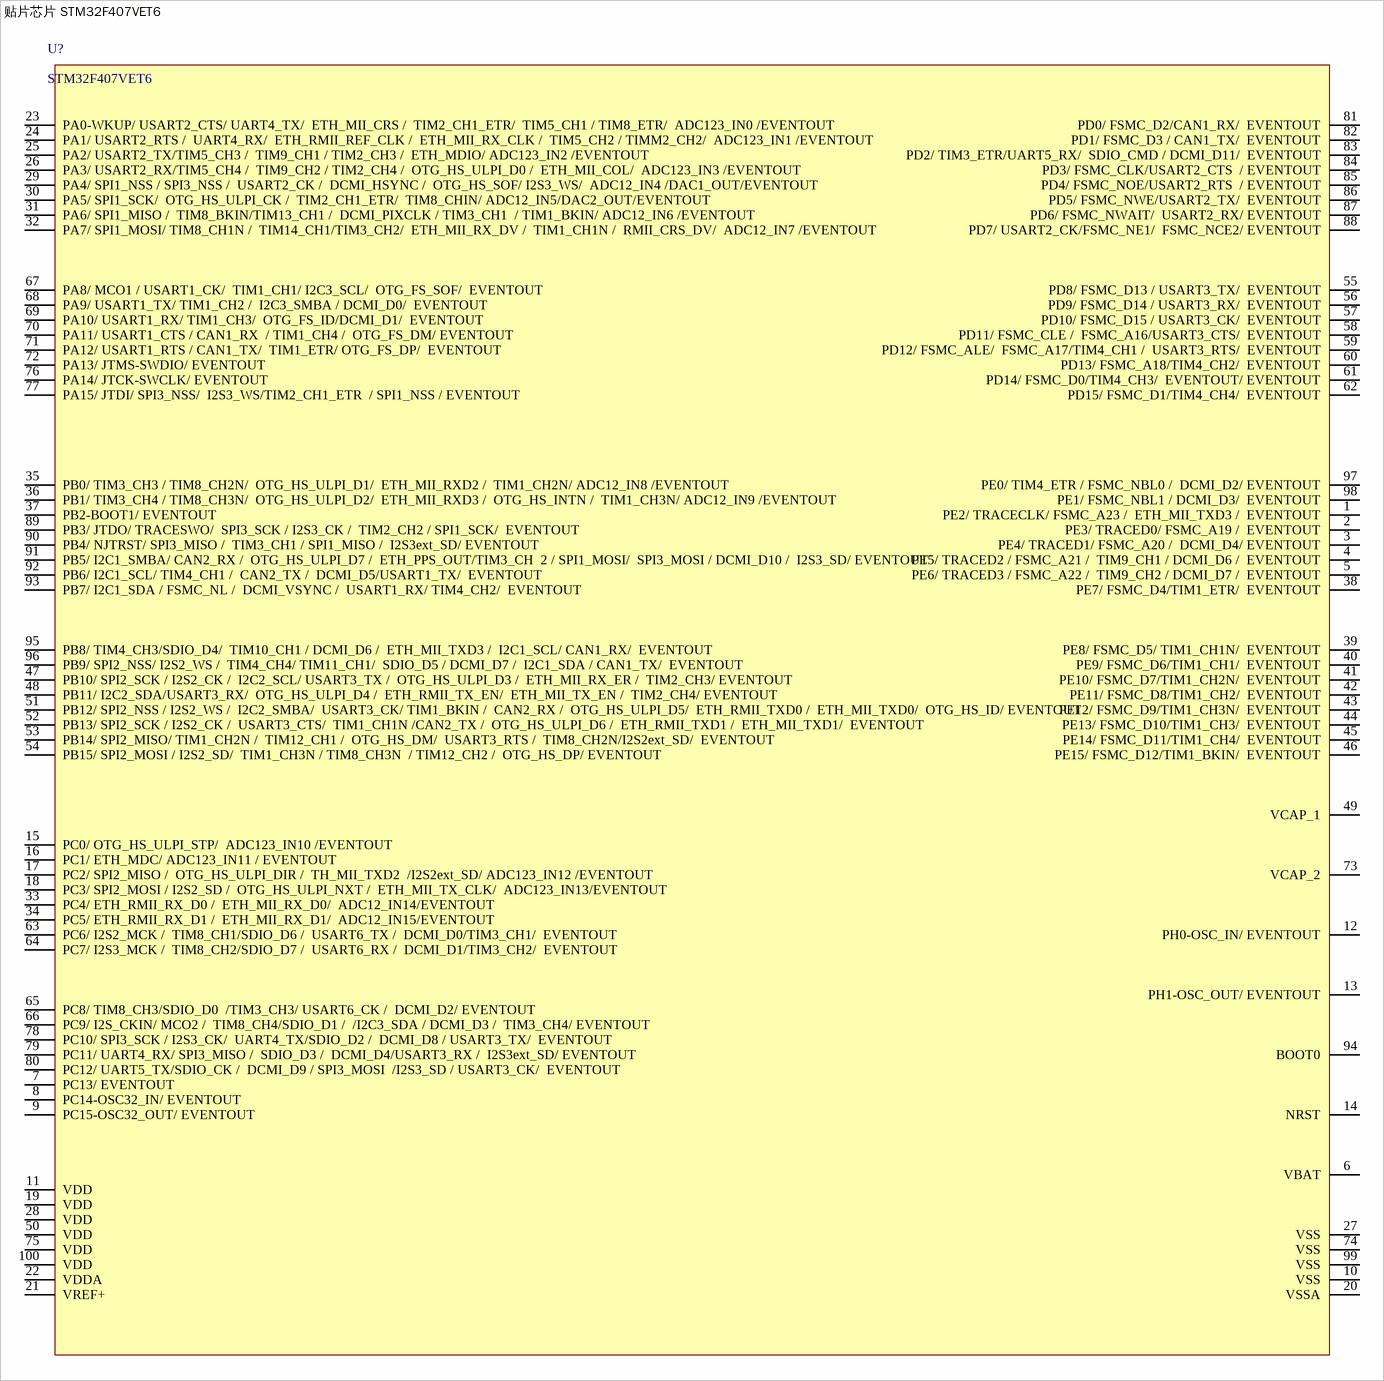
[diagram p24: symbol 贴片芯片 STM32F407VET6]

## 贴片芯片 STM32F407VET6
designator U?, comment STM32F407VET6
单片机; 名称: 芯片; 单位: 片; 封装: LQFP100
footprint LQFP100
pins: 1 PE2/ TRACECLK/ FSMC_A23 /  ETH_MII_TXD3 /  EVENTOUT, 2 PE3/ TRACED0/ FSMC_A19 /  EVENTOUT, 3 PE4/ TRACED1/ FSMC_A20 /  DCMI_D4/ EVENTOUT, 4 PE5/ TRACED2 / FSMC_A21 /  TIM9_CH1 / DCMI_D6 /  EVENTOUT, 5 PE6/ TRACED3 / FSMC_A22 /  TIM9_CH2 / DCMI_D7 /  EVENTOUT, 6 VBAT, 7 PC13/ EVENTOUT, 8 PC14-OSC32_IN/ EVENTOUT, 9 PC15-OSC32_OUT/ EVENTOUT, 10 VSS, 11 VDD, 12 PH0-OSC_IN/ EVENTOUT, 13 PH1-OSC_OUT/ EVENTOUT, 14 NRST, 15 PC0/ OTG_HS_ULPI_STP/  ADC123_IN10 /EVENTOUT, 16 PC1/ ETH_MDC/ ADC123_IN11 / EVENTOUT, 17 PC2/ SPI2_MISO /  OTG_HS_ULPI_DIR /  TH_MII_TXD2  /I2S2ext_SD/ ADC123_IN12 /EVENTOUT, 18 PC3/ SPI2_MOSI / I2S2_SD /  OTG_HS_ULPI_NXT /  ETH_MII_TX_CLK/  ADC123_IN13/EVENTOUT, 19 VDD, 20 VSSA, 21 VREF+, 22 VDDA, 23 PA0-WKUP/ USART2_CTS/ UART4_TX/  ETH_MII_CRS /  TIM2_CH1_ETR/  TIM5_CH1 / TIM8_ETR/  ADC123_IN0 /EVENTOUT, 24 PA1/ USART2_RTS /  UART4_RX/  ETH_RMII_REF_CLK /  ETH_MII_RX_CLK /  TIM5_CH2 / TIMM2_CH2/  ADC123_IN1 /EVENTOUT, 25 PA2/ USART2_TX/TIM5_CH3 /  TIM9_CH1 / TIM2_CH3 /  ETH_MDIO/ ADC123_IN2 /EVENTOUT, 26 PA3/ USART2_RX/TIM5_CH4 /  TIM9_CH2 / TIM2_CH4 /  OTG_HS_ULPI_D0 /  ETH_MII_COL/  ADC123_IN3 /EVENTOUT, 27 VSS, 28 VDD, 29 PA4/ SPI1_NSS / SPI3_NSS /  USART2_CK /  DCMI_HSYNC /  OTG_HS_SOF/ I2S3_WS/  ADC12_IN4 /DAC1_OUT/EVENTOUT, 30 PA5/ SPI1_SCK/  OTG_HS_ULPI_CK /  TIM2_CH1_ETR/  TIM8_CHIN/ ADC12_IN5/DAC2_OUT/EVENTOUT, 31 PA6/ SPI1_MISO /  TIM8_BKIN/TIM13_CH1 /  DCMI_PIXCLK / TIM3_CH1  / TIM1_BKIN/ ADC12_IN6 /EVENTOUT, 32 PA7/ SPI1_MOSI/ TIM8_CH1N /  TIM14_CH1/TIM3_CH2/  ETH_MII_RX_DV /  TIM1_CH1N /  RMII_CRS_DV/  ADC12_IN7 /EVENTOUT, 33 PC4/ ETH_RMII_RX_D0 /  ETH_MII_RX_D0/  ADC12_IN14/EVENTOUT, 34 PC5/ ETH_RMII_RX_D1 /  ETH_MII_RX_D1/  ADC12_IN15/EVENTOUT, 35 PB0/ TIM3_CH3 / TIM8_CH2N/  OTG_HS_ULPI_D1/  ETH_MII_RXD2 /  TIM1_CH2N/ ADC12_IN8 /EVENTOUT, 36 PB1/ TIM3_CH4 / TIM8_CH3N/  OTG_HS_ULPI_D2/  ETH_MII_RXD3 /  OTG_HS_INTN /  TIM1_CH3N/ ADC12_IN9 /EVENTOUT, 37 PB2-BOOT1/ EVENTOUT, 38 PE7/ FSMC_D4/TIM1_ETR/  EVENTOUT, 39 PE8/ FSMC_D5/ TIM1_CH1N/  EVENTOUT, 40 PE9/ FSMC_D6/TIM1_CH1/  EVENTOUT, 41 PE10/ FSMC_D7/TIM1_CH2N/  EVENTOUT, 42 PE11/ FSMC_D8/TIM1_CH2/  EVENTOUT, 43 PE12/ FSMC_D9/TIM1_CH3N/  EVENTOUT, 44 PE13/ FSMC_D10/TIM1_CH3/  EVENTOUT, 45 PE14/ FSMC_D11/TIM1_CH4/  EVENTOUT, 46 PE15/ FSMC_D12/TIM1_BKIN/  EVENTOUT, 47 PB10/ SPI2_SCK / I2S2_CK /  I2C2_SCL/ USART3_TX /  OTG_HS_ULPI_D3 /  ETH_MII_RX_ER /  TIM2_CH3/ EVENTOUT, 48 PB11/ I2C2_SDA/USART3_RX/  OTG_HS_ULPI_D4 /  ETH_RMII_TX_EN/  ETH_MII_TX_EN /  TIM2_CH4/ EVENTOUT, 49 VCAP_1, 50 VDD, 51 PB12/ SPI2_NSS / I2S2_WS /  I2C2_SMBA/  USART3_CK/ TIM1_BKIN /  CAN2_RX /  OTG_HS_ULPI_D5/  ETH_RMII_TXD0 /  ETH_MII_TXD0/  OTG_HS_ID/ EVENTOUT, 52 PB13/ SPI2_SCK / I2S2_CK /  USART3_CTS/  TIM1_CH1N /CAN2_TX /  OTG_HS_ULPI_D6 /  ETH_RMII_TXD1 /  ETH_MII_TXD1/  EVENTOUT, 53 PB14/ SPI2_MISO/ TIM1_CH2N /  TIM12_CH1 /  OTG_HS_DM/  USART3_RTS /  TIM8_CH2N/I2S2ext_SD/  EVENTOUT, 54 PB15/ SPI2_MOSI / I2S2_SD/  TIM1_CH3N / TIM8_CH3N  / TIM12_CH2 /  OTG_HS_DP/ EVENTOUT, 55 PD8/ FSMC_D13 / USART3_TX/  EVENTOUT, 56 PD9/ FSMC_D14 / USART3_RX/  EVENTOUT, 57 PD10/ FSMC_D15 / USART3_CK/  EVENTOUT, 58 PD11/ FSMC_CLE /  FSMC_A16/USART3_CTS/  EVENTOUT, 59 PD12/ FSMC_ALE/  FSMC_A17/TIM4_CH1 /  USART3_RTS/  EVENTOUT, 60 PD13/ FSMC_A18/TIM4_CH2/  EVENTOUT, 61 PD14/ FSMC_D0/TIM4_CH3/  EVENTOUT/ EVENTOUT, 62 PD15/ FSMC_D1/TIM4_CH4/  EVENTOUT, 63 PC6/ I2S2_MCK /  TIM8_CH1/SDIO_D6 /  USART6_TX /  DCMI_D0/TIM3_CH1/  EVENTOUT, 64 PC7/ I2S3_MCK /  TIM8_CH2/SDIO_D7 /  USART6_RX /  DCMI_D1/TIM3_CH2/  EVENTOUT, 65 PC8/ TIM8_CH3/SDIO_D0  /TIM3_CH3/ USART6_CK /  DCMI_D2/ EVENTOUT, 66 PC9/ I2S_CKIN/ MCO2 /  TIM8_CH4/SDIO_D1 /  /I2C3_SDA / DCMI_D3 /  TIM3_CH4/ EVENTOUT, 67 PA8/ MCO1 / USART1_CK/  TIM1_CH1/ I2C3_SCL/  OTG_FS_SOF/  EVENTOUT, 68 PA9/ USART1_TX/ TIM1_CH2 /  I2C3_SMBA / DCMI_D0/  EVENTOUT, 69 PA10/ USART1_RX/ TIM1_CH3/  OTG_FS_ID/DCMI_D1/  EVENTOUT, 70 PA11/ USART1_CTS / CAN1_RX  / TIM1_CH4 /  OTG_FS_DM/ EVENTOUT, 71 PA12/ USART1_RTS / CAN1_TX/  TIM1_ETR/ OTG_FS_DP/  EVENTOUT, 72 PA13/ JTMS-SWDIO/ EVENTOUT, 73 VCAP_2, 74 VSS, 75 VDD, 76 PA14/ JTCK-SWCLK/ EVENTOUT, 77 PA15/ JTDI/ SPI3_NSS/  I2S3_WS/TIM2_CH1_ETR  / SPI1_NSS / EVENTOUT, 78 PC10/ SPI3_SCK / I2S3_CK/  UART4_TX/SDIO_D2 /  DCMI_D8 / USART3_TX/  EVENTOUT, 79 PC11/ UART4_RX/ SPI3_MISO /  SDIO_D3 /  DCMI_D4/USART3_RX /  I2S3ext_SD/ EVENTOUT, 80 PC12/ UART5_TX/SDIO_CK /  DCMI_D9 / SPI3_MOSI  /I2S3_SD / USART3_CK/  EVENTOUT, 81 PD0/ FSMC_D2/CAN1_RX/  EVENTOUT, 82 PD1/ FSMC_D3 / CAN1_TX/  EVENTOUT, 83 PD2/ TIM3_ETR/UART5_RX/  SDIO_CMD / DCMI_D11/  EVENTOUT, 84 PD3/ FSMC_CLK/USART2_CTS  / EVENTOUT, 85 PD4/ FSMC_NOE/USART2_RTS  / EVENTOUT, 86 PD5/ FSMC_NWE/USART2_TX/  EVENTOUT, 87 PD6/ FSMC_NWAIT/  USART2_RX/ EVENTOUT, 88 PD7/ USART2_CK/FSMC_NE1/  FSMC_NCE2/ EVENTOUT, 89 PB3/ JTDO/ TRACESWO/  SPI3_SCK / I2S3_CK /  TIM2_CH2 / SPI1_SCK/  EVENTOUT, 90 PB4/ NJTRST/ SPI3_MISO /  TIM3_CH1 / SPI1_MISO /  I2S3ext_SD/ EVENTOUT, 91 PB5/ I2C1_SMBA/ CAN2_RX /  OTG_HS_ULPI_D7 /  ETH_PPS_OUT/TIM3_CH  2 / SPI1_MOSI/  SPI3_MOSI / DCMI_D10 /  I2S3_SD/ EVENTOUT, 92 PB6/ I2C1_SCL/ TIM4_CH1 /  CAN2_TX /  DCMI_D5/USART1_TX/  EVENTOUT, 93 PB7/ I2C1_SDA / FSMC_NL /  DCMI_VSYNC /  USART1_RX/ TIM4_CH2/  EVENTOUT, 94 BOOT0, 95 PB8/ TIM4_CH3/SDIO_D4/  TIM10_CH1 / DCMI_D6 /  ETH_MII_TXD3 /  I2C1_SCL/ CAN1_RX/  EVENTOUT, 96 PB9/ SPI2_NSS/ I2S2_WS /  TIM4_CH4/ TIM11_CH1/  SDIO_D5 / DCMI_D7 /  I2C1_SDA / CAN1_TX/  EVENTOUT, 97 PE0/ TIM4_ETR / FSMC_NBL0 /  DCMI_D2/ EVENTOUT, 98 PE1/ FSMC_NBL1 / DCMI_D3/  EVENTOUT, 99 VSS, 100 VDD

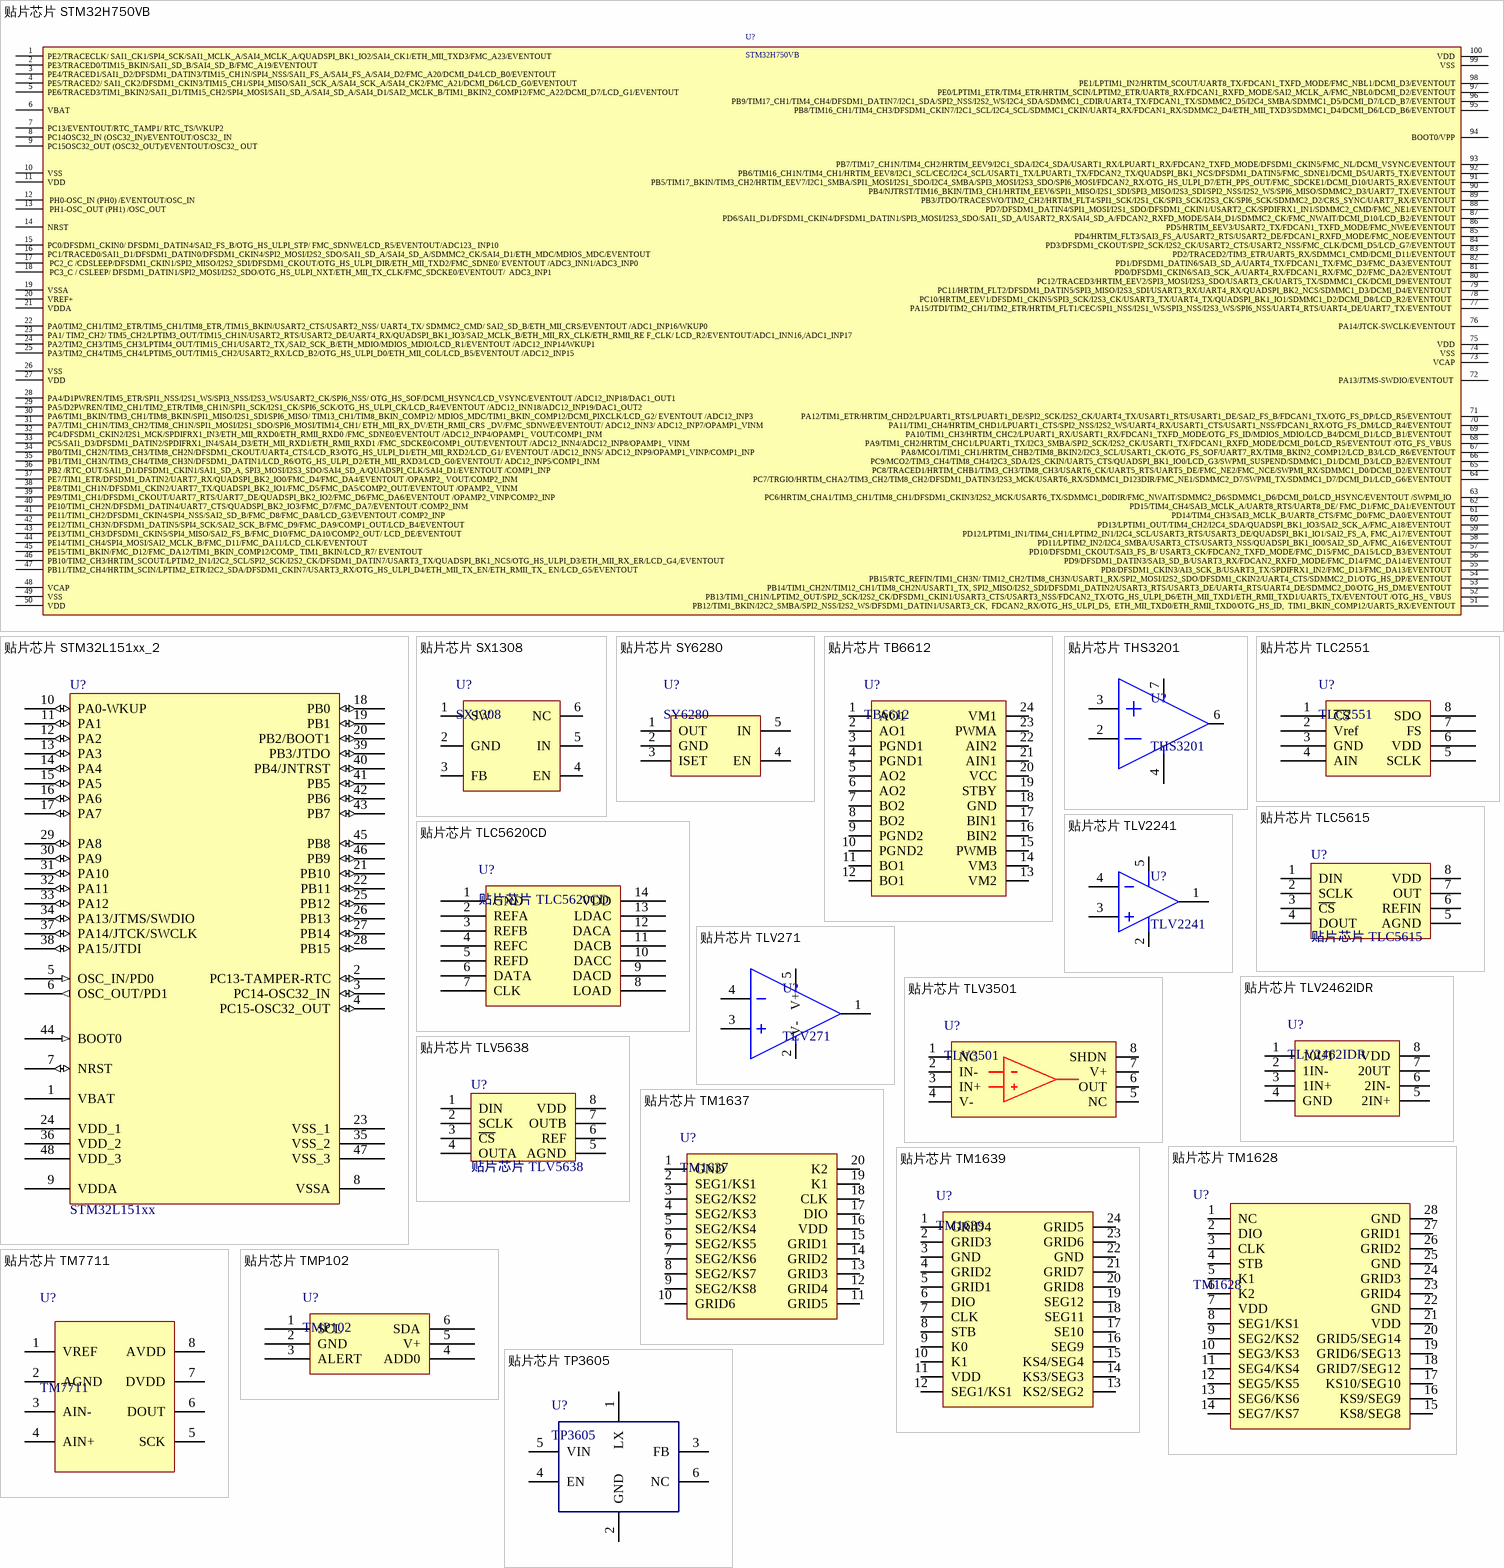
[diagram p25: symbols 贴片芯片 STM32H750VB to 贴片芯片 TP3605]